# Altium integrated library Lattice ORCA Series 3.IntLib: 93 symbols (part 13 of 14)
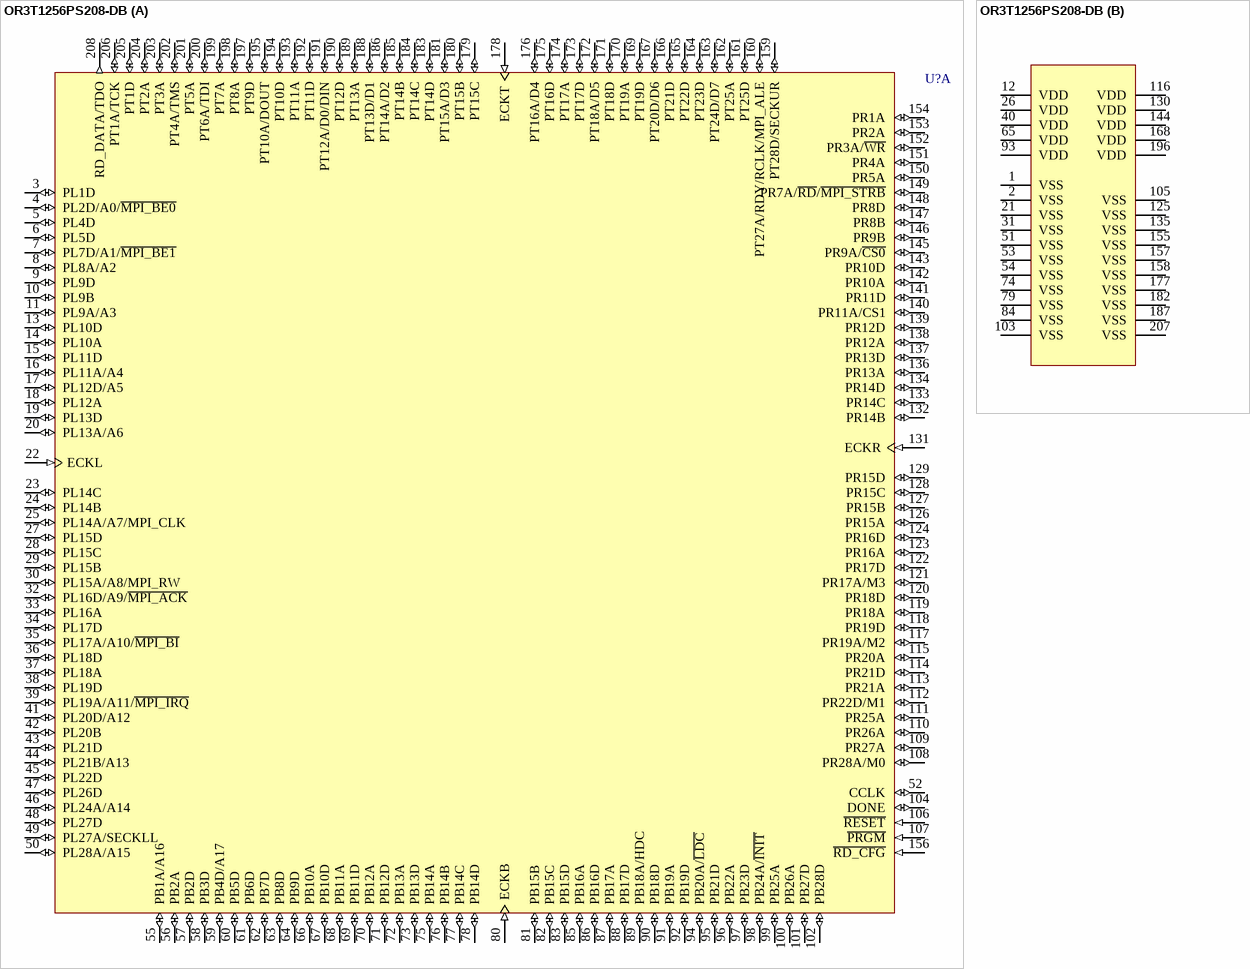
[diagram p148: symbol OR3T1256PS208-DB]

## OR3T1256PS208-DB
designator U?
ORCA Series 3T FPGA: 3.3 V, Commercial Grade, 452 I/Os.; Published: 21-May-2003; LatestRevisionDate: 13-Apr-2006; LatestRevisionNote: IPC-7351 Footprint Added.; DatasheetVersion: Dec-2002; PackageVersion: pkg_32, Aug-2005; PackageReference: PQFP208; Publisher: Altium Limited; PackageDescription: 208-Pin Plastic Quad Flat Pack (PQFP208); Code_JEDEC: MO-143-FAI; ComponentLink1Description: Manufacturer Link; ComponentLink1URL: http://www.latticesemi.com/products/fpga/orca/orca3/index.cfm; ComponentLink2Description: Datasheet; ComponentLink2URL: http://www.latticesemi.com/account/_download.cfm?AMID=3974; ComponentLink3Description: Lattice Login; ComponentLink3URL: http://www.latticesemi.com/account/login.cfm
footprint PQFP208_N (Shrink QFP, 208-Leads, Body 28x28mm, Pitch 0.5mm, IPC Medium Density)
footprint PQFP208_L (Shrink QFP, 208-Leads, Body 28x28mm, Pitch 0.5mm, IPC High Density)
footprint PQFP208_M (Shrink QFP, 208-Leads, Body 28x28mm, Pitch 0.5mm, IPC Low Density)
3D model OR3T125-PQFP208 (208-Pin Plastic Quad Flat Pack (PQFP208))
part A pins: 3 PL1D (io), 4 PL2D/A0/~{MPI_BE0} (io), 5 PL4D (io), 6 PL5D (io), 7 PL7D/A1/~{MPI_BE1} (io), 8 PL8A/A2 (io), 9 PL9D (io), 10 PL9B (io), 11 PL9A/A3 (io), 13 PL10D (io), 14 PL10A (io), 15 PL11D (io), 16 PL11A/A4 (io), 17 PL12D/A5 (io), 18 PL12A (io), 19 PL13D (io), 20 PL13A/A6 (io), 22 ECKL (in), 23 PL14C (io), 24 PL14B (io), 25 PL14A/A7/MPI_CLK (io), 27 PL15D (io), 28 PL15C (io), 29 PL15B (io), 30 PL15A/A8/MPI_RW (io), 32 PL16D/A9/~{MPI_ACK} (io), 33 PL16A (io), 34 PL17D (io), 35 PL17A/A10/~{MPI_BI} (io), 36 PL18D (io), 37 PL18A (io), 38 PL19D (io), 39 PL19A/A11/~{MPI_IRQ} (io), 41 PL20D/A12 (io), 42 PL20B (io), 43 PL21D (io), 44 PL21B/A13 (io), 45 PL22D (io), 46 PL24A/A14 (io), 47 PL26D (io), 48 PL27D (io), 49 PL27A/SECKLL (io), 50 PL28A/A15 (io), 52 CCLK (io), 55 PB1A/A16 (io), 56 PB2A (io), 57 PB2D (io), 58 PB3D (io), 59 PB4D/A17 (io), 60 PB5D (io), 61 PB6D (io), 62 PB7D (io), 63 PB8D (io), 64 PB9D (io), 66 PB10A (io), 67 PB10D (io), 68 PB11A (io), 69 PB11D (io), 70 PB12A (io), 71 PB12D (io), 72 PB13A (io), 73 PB13D (io), 75 PB14A (io), 76 PB14B (io), 77 PB14C (io), 78 PB14D (io), 80 ECKB (in), 81 PB15B (io), 82 PB15C (io), 83 PB15D (io), 85 PB16A (io), 86 PB16D (io), 87 PB17A (io), 88 PB17D (io), 89 PB18A/HDC (io), 90 PB18D (io), 91 PB19A (io), 92 PB19D (io), 94 PB20A/~{LDC} (io), 95 PB21D (io), 96 PB22A (io), 97 PB23D (io), 98 PB24A/~{INIT} (io), 99 PB25A (io), 100 PB26A (io), 101 PB27D (io), 102 PB28D (io), 104 DONE (io), 106 ~{RESET} (in), 107 ~{PRGM} (in), 108 PR28A/M0 (io), 109 PR27A (io), 110 PR26A (io), 111 PR25A (io), 112 PR22D/M1 (io), 113 PR21A (io), 114 PR21D (io), 115 PR20A (io), 117 PR19A/M2 (io), 118 PR19D (io), 119 PR18A (io), 120 PR18D (io), 121 PR17A/M3 (io), 122 PR17D (io), 123 PR16A (io), 124 PR16D (io), 126 PR15A (io), 127 PR15B (io), 128 PR15C (io), 129 PR15D (io), 131 ECKR (in), 132 PR14B (io), 133 PR14C (io), 134 PR14D (io), 136 PR13A (io), 137 PR13D (io), 138 PR12A (io), 139 PR12D (io), 140 PR11A/CS1 (io), 141 PR11D (io), 142 PR10A (io), 143 PR10D (io), 145 PR9A/~{CS0} (io), 146 PR9B (io), 147 PR8B (io), 148 PR8D (io), 149 PR7A/~{RD}/~{MPI_STRB} (io), 150 PR5A (io), 151 PR4A (io), 152 PR3A/~{WR} (io), 153 PR2A (io), 154 PR1A (io), 156 ~{RD_CFG} (in), 159 PT28D/SECKUR (io), 160 PT27A/RDY/RCLK/MPI_ALE (io), 161 PT25D (io), 162 PT25A (io), 163 PT24D/D7 (io), 164 PT23D (io), 165 PT22D (io), 166 PT21D (io), 167 PT20D/D6 (io), 169 PT19D (io), 170 PT19A (io), 171 PT18D (io), 172 PT18A/D5 (io), 173 PT17D (io), 174 PT17A (io), 175 PT16D (io), 176 PT16A/D4 (io), 178 ECKT (in), 179 PT15C (io), 180 PT15B (io), 181 PT15A/D3 (io), 183 PT14D (io), 184 PT14C (io), 185 PT14B (io), 186 PT14A/D2 (io), 188 PT13D/D1 (io), 189 PT13A (io), 190 PT12D (io), 191 PT12A/D0/DIN (io), 192 PT11D (io), 193 PT11A (io), 194 PT10D (io), 195 PT10A/DOUT (io), 197 PT9D (io), 198 PT8A (io), 199 PT7A (io), 200 PT6A/TDI (io), 201 PT5A (io), 202 PT4A/TMS (io), 203 PT3A (io), 204 PT2A (io), 205 PT1D (io), 206 PT1A/TCK (io), 208 RD_DATA/TDO (out)
part B pins: 1 VSS (power), 2 VSS (power), 12 VDD (power), 21 VSS (power), 26 VDD (power), 31 VSS (power), 40 VDD (power), 51 VSS (power), 53 VSS (power), 54 VSS (power), 65 VDD (power), 74 VSS (power), 79 VSS (power), 84 VSS (power), 93 VDD (power), 103 VSS (power), 105 VSS (power), 116 VDD (power), 125 VSS (power), 130 VDD (power), 135 VSS (power), 144 VDD (power), 155 VSS (power), 157 VSS (power), 158 VSS (power), 168 VDD (power), 177 VSS (power), 182 VSS (power), 187 VSS (power), 196 VDD (power), 207 VSS (power)

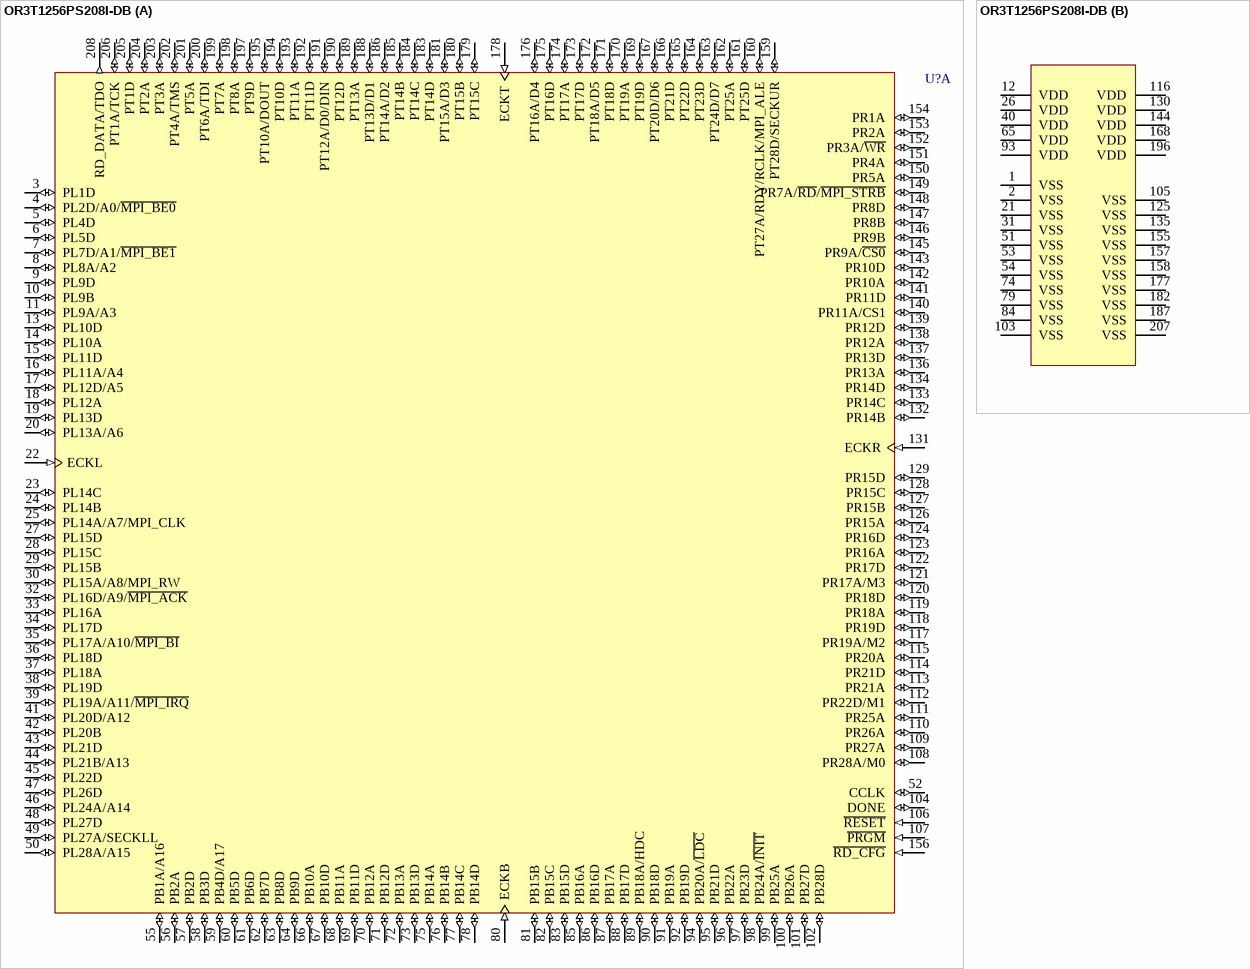
[diagram p126: symbol OR3T1256PS208I-DB]

## OR3T1256PS208I-DB
designator U?
ORCA Series 3T FPGA: 3.3 V, Industrial Grade, 452 I/Os.; Published: 21-May-2003; LatestRevisionDate: 13-Apr-2006; LatestRevisionNote: IPC-7351 Footprint Added.; DatasheetVersion: Dec-2002; PackageVersion: pkg_32, Aug-2005; PackageReference: PQFP208; Publisher: Altium Limited; PackageDescription: 208-Pin Plastic Quad Flat Pack (PQFP208); Code_JEDEC: MO-143-FAI; ComponentLink1Description: Manufacturer Link; ComponentLink1URL: http://www.latticesemi.com/products/fpga/orca/orca3/index.cfm; ComponentLink2Description: Datasheet; ComponentLink2URL: http://www.latticesemi.com/account/_download.cfm?AMID=3974; ComponentLink3Description: Lattice Login; ComponentLink3URL: http://www.latticesemi.com/account/login.cfm
footprint PQFP208_N (Shrink QFP, 208-Leads, Body 28x28mm, Pitch 0.5mm, IPC Medium Density)
footprint PQFP208_L (Shrink QFP, 208-Leads, Body 28x28mm, Pitch 0.5mm, IPC High Density)
footprint PQFP208_M (Shrink QFP, 208-Leads, Body 28x28mm, Pitch 0.5mm, IPC Low Density)
3D model OR3T125-PQFP208 (208-Pin Plastic Quad Flat Pack (PQFP208))
part A pins: 3 PL1D (io), 4 PL2D/A0/~{MPI_BE0} (io), 5 PL4D (io), 6 PL5D (io), 7 PL7D/A1/~{MPI_BE1} (io), 8 PL8A/A2 (io), 9 PL9D (io), 10 PL9B (io), 11 PL9A/A3 (io), 13 PL10D (io), 14 PL10A (io), 15 PL11D (io), 16 PL11A/A4 (io), 17 PL12D/A5 (io), 18 PL12A (io), 19 PL13D (io), 20 PL13A/A6 (io), 22 ECKL (in), 23 PL14C (io), 24 PL14B (io), 25 PL14A/A7/MPI_CLK (io), 27 PL15D (io), 28 PL15C (io), 29 PL15B (io), 30 PL15A/A8/MPI_RW (io), 32 PL16D/A9/~{MPI_ACK} (io), 33 PL16A (io), 34 PL17D (io), 35 PL17A/A10/~{MPI_BI} (io), 36 PL18D (io), 37 PL18A (io), 38 PL19D (io), 39 PL19A/A11/~{MPI_IRQ} (io), 41 PL20D/A12 (io), 42 PL20B (io), 43 PL21D (io), 44 PL21B/A13 (io), 45 PL22D (io), 46 PL24A/A14 (io), 47 PL26D (io), 48 PL27D (io), 49 PL27A/SECKLL (io), 50 PL28A/A15 (io), 52 CCLK (io), 55 PB1A/A16 (io), 56 PB2A (io), 57 PB2D (io), 58 PB3D (io), 59 PB4D/A17 (io), 60 PB5D (io), 61 PB6D (io), 62 PB7D (io), 63 PB8D (io), 64 PB9D (io), 66 PB10A (io), 67 PB10D (io), 68 PB11A (io), 69 PB11D (io), 70 PB12A (io), 71 PB12D (io), 72 PB13A (io), 73 PB13D (io), 75 PB14A (io), 76 PB14B (io), 77 PB14C (io), 78 PB14D (io), 80 ECKB (in), 81 PB15B (io), 82 PB15C (io), 83 PB15D (io), 85 PB16A (io), 86 PB16D (io), 87 PB17A (io), 88 PB17D (io), 89 PB18A/HDC (io), 90 PB18D (io), 91 PB19A (io), 92 PB19D (io), 94 PB20A/~{LDC} (io), 95 PB21D (io), 96 PB22A (io), 97 PB23D (io), 98 PB24A/~{INIT} (io), 99 PB25A (io), 100 PB26A (io), 101 PB27D (io), 102 PB28D (io), 104 DONE (io), 106 ~{RESET} (in), 107 ~{PRGM} (in), 108 PR28A/M0 (io), 109 PR27A (io), 110 PR26A (io), 111 PR25A (io), 112 PR22D/M1 (io), 113 PR21A (io), 114 PR21D (io), 115 PR20A (io), 117 PR19A/M2 (io), 118 PR19D (io), 119 PR18A (io), 120 PR18D (io), 121 PR17A/M3 (io), 122 PR17D (io), 123 PR16A (io), 124 PR16D (io), 126 PR15A (io), 127 PR15B (io), 128 PR15C (io), 129 PR15D (io), 131 ECKR (in), 132 PR14B (io), 133 PR14C (io), 134 PR14D (io), 136 PR13A (io), 137 PR13D (io), 138 PR12A (io), 139 PR12D (io), 140 PR11A/CS1 (io), 141 PR11D (io), 142 PR10A (io), 143 PR10D (io), 145 PR9A/~{CS0} (io), 146 PR9B (io), 147 PR8B (io), 148 PR8D (io), 149 PR7A/~{RD}/~{MPI_STRB} (io), 150 PR5A (io), 151 PR4A (io), 152 PR3A/~{WR} (io), 153 PR2A (io), 154 PR1A (io), 156 ~{RD_CFG} (in), 159 PT28D/SECKUR (io), 160 PT27A/RDY/RCLK/MPI_ALE (io), 161 PT25D (io), 162 PT25A (io), 163 PT24D/D7 (io), 164 PT23D (io), 165 PT22D (io), 166 PT21D (io), 167 PT20D/D6 (io), 169 PT19D (io), 170 PT19A (io), 171 PT18D (io), 172 PT18A/D5 (io), 173 PT17D (io), 174 PT17A (io), 175 PT16D (io), 176 PT16A/D4 (io), 178 ECKT (in), 179 PT15C (io), 180 PT15B (io), 181 PT15A/D3 (io), 183 PT14D (io), 184 PT14C (io), 185 PT14B (io), 186 PT14A/D2 (io), 188 PT13D/D1 (io), 189 PT13A (io), 190 PT12D (io), 191 PT12A/D0/DIN (io), 192 PT11D (io), 193 PT11A (io), 194 PT10D (io), 195 PT10A/DOUT (io), 197 PT9D (io), 198 PT8A (io), 199 PT7A (io), 200 PT6A/TDI (io), 201 PT5A (io), 202 PT4A/TMS (io), 203 PT3A (io), 204 PT2A (io), 205 PT1D (io), 206 PT1A/TCK (io), 208 RD_DATA/TDO (out)
part B pins: 1 VSS (power), 2 VSS (power), 12 VDD (power), 21 VSS (power), 26 VDD (power), 31 VSS (power), 40 VDD (power), 51 VSS (power), 53 VSS (power), 54 VSS (power), 65 VDD (power), 74 VSS (power), 79 VSS (power), 84 VSS (power), 93 VDD (power), 103 VSS (power), 105 VSS (power), 116 VDD (power), 125 VSS (power), 130 VDD (power), 135 VSS (power), 144 VDD (power), 155 VSS (power), 157 VSS (power), 158 VSS (power), 168 VDD (power), 177 VSS (power), 182 VSS (power), 187 VSS (power), 196 VDD (power), 207 VSS (power)

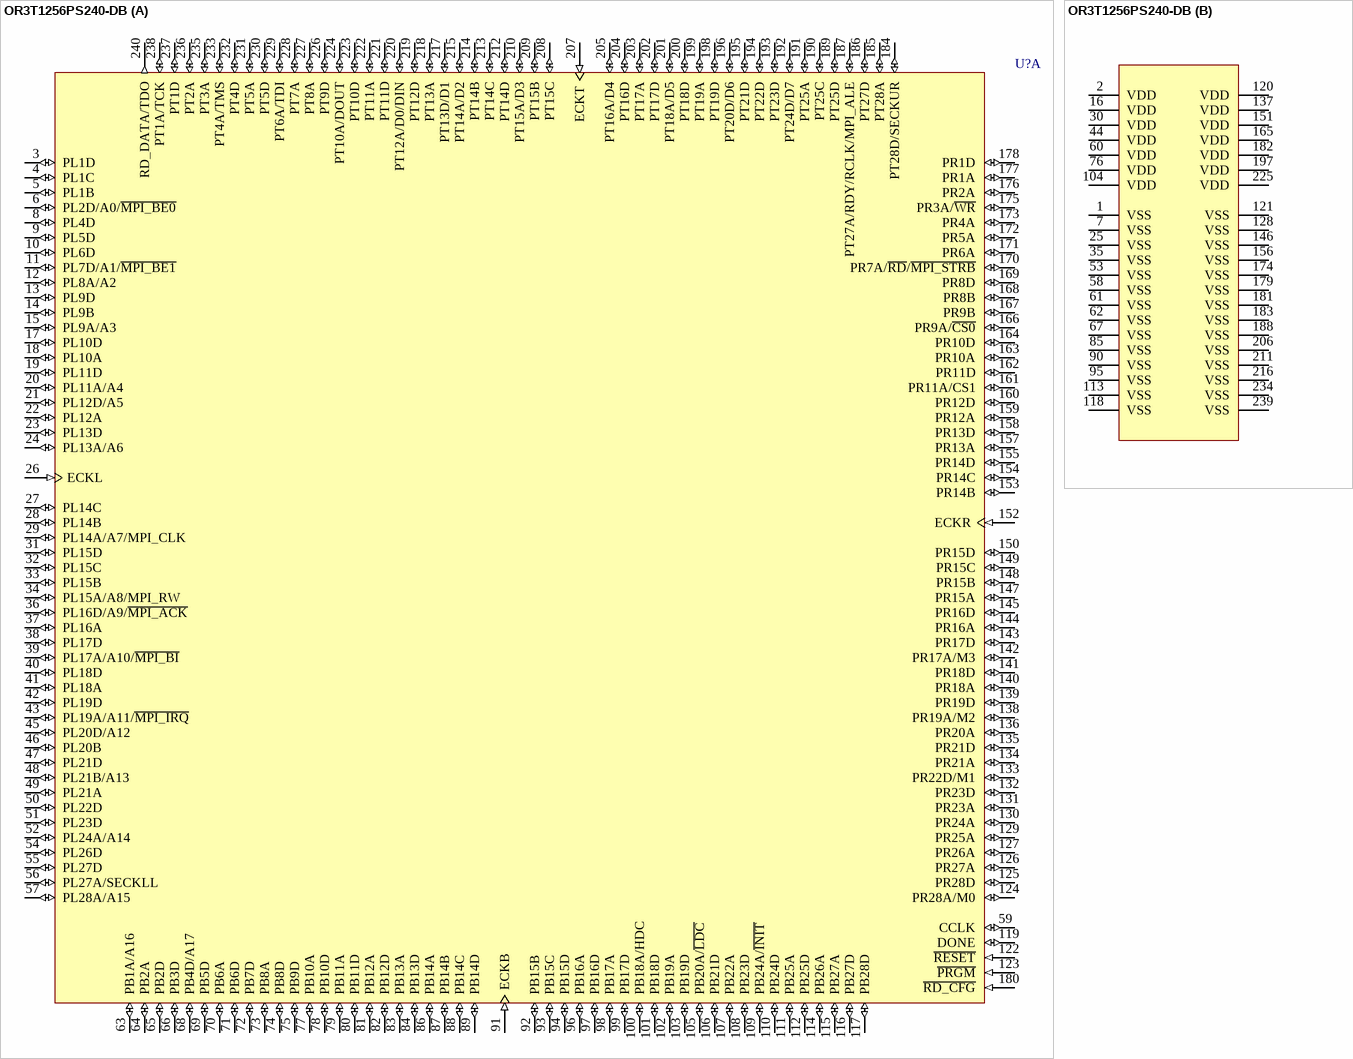
[diagram p127: symbol OR3T1256PS240-DB]

## OR3T1256PS240-DB
designator U?
ORCA Series 3T FPGA: 3.3 V, Commercial Grade, 452 I/Os.; Published: 21-May-2003; LatestRevisionDate: 13-Apr-2006; LatestRevisionNote: IPC-7351 Footprint Added.; DatasheetVersion: Dec-2002; PackageVersion: pkg_32, Aug-2005; PackageReference: PQFP240; Publisher: Altium Limited; PackageDescription: 240-Pin Shrink Quad Flat Pack 0.5 mm Pitch; ComponentLink1Description: Manufacturer Link; ComponentLink1URL: http://www.latticesemi.com/products/fpga/orca/orca3/index.cfm; ComponentLink2Description: Datasheet; ComponentLink2URL: http://www.latticesemi.com/account/_download.cfm?AMID=3974; ComponentLink3Description: Lattice Login; ComponentLink3URL: http://www.latticesemi.com/account/login.cfm
footprint PQFP240_N (Shrink QFP, 240-Leads, Body 32x32mm, Pitch 0.5mm, IPC Medium Density)
footprint PQFP240_L (Shrink QFP, 240-Leads, Body 32x32mm, Pitch 0.5mm, IPC High Density)
footprint PQFP240_M (Shrink QFP, 240-Leads, Body 32x32mm, Pitch 0.5mm, IPC Low Density)
3D model OR3T125-PQFP240 (240-Pin Shrink Quad Flat Pack 0.5 mm Pitch)
part A pins: 3 PL1D (io), 4 PL1C (io), 5 PL1B (io), 6 PL2D/A0/~{MPI_BE0} (io), 8 PL4D (io), 9 PL5D (io), 10 PL6D (io), 11 PL7D/A1/~{MPI_BE1} (io), 12 PL8A/A2 (io), 13 PL9D (io), 14 PL9B (io), 15 PL9A/A3 (io), 17 PL10D (io), 18 PL10A (io), 19 PL11D (io), 20 PL11A/A4 (io), 21 PL12D/A5 (io), 22 PL12A (io), 23 PL13D (io), 24 PL13A/A6 (io), 26 ECKL (in), 27 PL14C (io), 28 PL14B (io), 29 PL14A/A7/MPI_CLK (io), 31 PL15D (io), 32 PL15C (io), 33 PL15B (io), 34 PL15A/A8/MPI_RW (io), 36 PL16D/A9/~{MPI_ACK} (io), 37 PL16A (io), 38 PL17D (io), 39 PL17A/A10/~{MPI_BI} (io), 40 PL18D (io), 41 PL18A (io), 42 PL19D (io), 43 PL19A/A11/~{MPI_IRQ} (io), 45 PL20D/A12 (io), 46 PL20B (io), 47 PL21D (io), 48 PL21B/A13 (io), 49 PL21A (io), 50 PL22D (io), 51 PL23D (io), 52 PL24A/A14 (io), 54 PL26D (io), 55 PL27D (io), 56 PL27A/SECKLL (io), 57 PL28A/A15 (io), 59 CCLK (io), 63 PB1A/A16 (io), 64 PB2A (io), 65 PB2D (io), 66 PB3D (io), 68 PB4D/A17 (io), 69 PB5D (io), 70 PB6A (io), 71 PB6D (io), 72 PB7D (io), 73 PB8A (io), 74 PB8D (io), 75 PB9D (io), 77 PB10A (io), 78 PB10D (io), 79 PB11A (io), 80 PB11D (io), 81 PB12A (io), 82 PB12D (io), 83 PB13A (io), 84 PB13D (io), 86 PB14A (io), 87 PB14B (io), 88 PB14C (io), 89 PB14D (io), 91 ECKB (in), 92 PB15B (io), 93 PB15C (io), 94 PB15D (io), 96 PB16A (io), 97 PB16D (io), 98 PB17A (io), 99 PB17D (io), 100 PB18A/HDC (io), 101 PB18D (io), 102 PB19A (io), 103 PB19D (io), 105 PB20A/~{LDC} (io), 106 PB21D (io), 107 PB22A (io), 108 PB23D (io), 109 PB24A/~{INIT} (io), 110 PB24D (io), 111 PB25A (io), 112 PB25D (io), 114 PB26A (io), 115 PB27A (io), 116 PB27D (io), 117 PB28D (io), 119 DONE (io), 122 ~{RESET} (in), 123 ~{PRGM} (in), 124 PR28A/M0 (io), 125 PR28D (io), 126 PR27A (io), 127 PR26A (io), 129 PR25A (io), 130 PR24A (io), 131 PR23A (io), 132 PR23D (io), 133 PR22D/M1 (io), 134 PR21A (io), 135 PR21D (io), 136 PR20A (io), 138 PR19A/M2 (io), 139 PR19D (io), 140 PR18A (io), 141 PR18D (io), 142 PR17A/M3 (io), 143 PR17D (io), 144 PR16A (io), 145 PR16D (io), 147 PR15A (io), 148 PR15B (io), 149 PR15C (io), 150 PR15D (io), 152 ECKR (in), 153 PR14B (io), 154 PR14C (io), 155 PR14D (io), 157 PR13A (io), 158 PR13D (io), 159 PR12A (io), 160 PR12D (io), 161 PR11A/CS1 (io), 162 PR11D (io), 163 PR10A (io), 164 PR10D (io), 166 PR9A/~{CS0} (io), 167 PR9B (io), 168 PR8B (io), 169 PR8D (io), 170 PR7A/~{RD}/~{MPI_STRB} (io), 171 PR6A (io), 172 PR5A (io), 173 PR4A (io), 175 PR3A/~{WR} (io), 176 PR2A (io), 177 PR1A (io), 178 PR1D (io), 180 ~{RD_CFG} (in), 184 PT28D/SECKUR (io), 185 PT28A (io), 186 PT27D (io), 187 PT27A/RDY/RCLK/MPI_ALE (io), 189 PT25D (io), 190 PT25C (io), 191 PT25A (io), 192 PT24D/D7 (io), 193 PT23D (io), 194 PT22D (io), 195 PT21D (io), 196 PT20D/D6 (io), 198 PT19D (io), 199 PT19A (io), 200 PT18D (io), 201 PT18A/D5 (io), 202 PT17D (io), 203 PT17A (io), 204 PT16D (io), 205 PT16A/D4 (io), 207 ECKT (in), 208 PT15C (io), 209 PT15B (io), 210 PT15A/D3 (io), 212 PT14D (io), 213 PT14C (io), 214 PT14B (io), 215 PT14A/D2 (io), 217 PT13D/D1 (io), 218 PT13A (io), 219 PT12D (io), 220 PT12A/D0/DIN (io), 221 PT11D (io), 222 PT11A (io), 223 PT10D (io), 224 PT10A/DOUT (io), 226 PT9D (io), 227 PT8A (io), 228 PT7A (io), 229 PT6A/TDI (io), 230 PT5D (io), 231 PT5A (io), 232 PT4D (io), 233 PT4A/TMS (io), 235 PT3A (io), 236 PT2A (io), 237 PT1D (io), 238 PT1A/TCK (io), 240 RD_DATA/TDO (out)
part B pins: 1 VSS (power), 2 VDD (power), 7 VSS (power), 16 VDD (power), 25 VSS (power), 30 VDD (power), 35 VSS (power), 44 VDD (power), 53 VSS (power), 58 VSS (power), 60 VDD (power), 61 VSS (power), 62 VSS (power), 67 VSS (power), 76 VDD (power), 85 VSS (power), 90 VSS (power), 95 VSS (power), 104 VDD (power), 113 VSS (power), 118 VSS (power), 120 VDD (power), 121 VSS (power), 128 VSS (power), 137 VDD (power), 146 VSS (power), 151 VDD (power), 156 VSS (power), 165 VDD (power), 174 VSS (power), 179 VSS (power), 181 VSS (power), 182 VDD (power), 183 VSS (power), 188 VSS (power), 197 VDD (power), 206 VSS (power), 211 VSS (power), 216 VSS (power), 225 VDD (power), 234 VSS (power), 239 VSS (power)

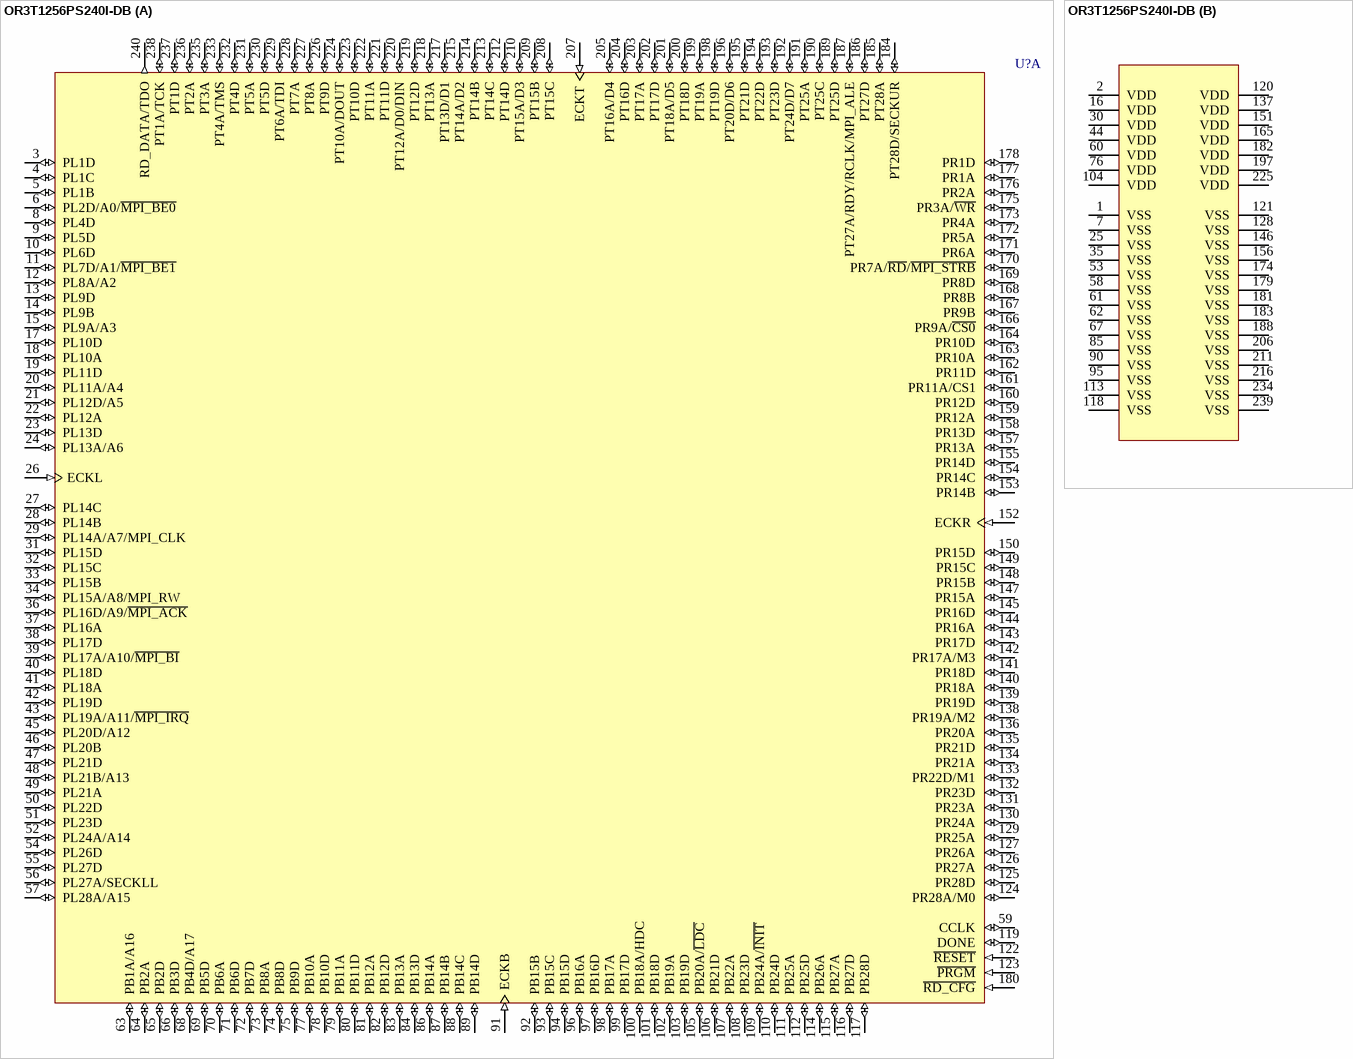
[diagram p128: symbol OR3T1256PS240I-DB]

## OR3T1256PS240I-DB
designator U?
ORCA Series 3T FPGA: 3.3 V, Industrial Grade, 452 I/Os.; Published: 21-May-2003; LatestRevisionDate: 13-Apr-2006; LatestRevisionNote: IPC-7351 Footprint Added.; DatasheetVersion: Dec-2002; PackageVersion: pkg_32, Aug-2005; PackageReference: PQFP240; Publisher: Altium Limited; PackageDescription: 240-Pin Shrink Quad Flat Pack 0.5 mm Pitch; ComponentLink1Description: Manufacturer Link; ComponentLink1URL: http://www.latticesemi.com/products/fpga/orca/orca3/index.cfm; ComponentLink2Description: Datasheet; ComponentLink2URL: http://www.latticesemi.com/account/_download.cfm?AMID=3974; ComponentLink3Description: Lattice Login; ComponentLink3URL: http://www.latticesemi.com/account/login.cfm
footprint PQFP240_N (Shrink QFP, 240-Leads, Body 32x32mm, Pitch 0.5mm, IPC Medium Density)
footprint PQFP240_L (Shrink QFP, 240-Leads, Body 32x32mm, Pitch 0.5mm, IPC High Density)
footprint PQFP240_M (Shrink QFP, 240-Leads, Body 32x32mm, Pitch 0.5mm, IPC Low Density)
3D model OR3T125-PQFP240 (240-Pin Shrink Quad Flat Pack 0.5 mm Pitch)
part A pins: 3 PL1D (io), 4 PL1C (io), 5 PL1B (io), 6 PL2D/A0/~{MPI_BE0} (io), 8 PL4D (io), 9 PL5D (io), 10 PL6D (io), 11 PL7D/A1/~{MPI_BE1} (io), 12 PL8A/A2 (io), 13 PL9D (io), 14 PL9B (io), 15 PL9A/A3 (io), 17 PL10D (io), 18 PL10A (io), 19 PL11D (io), 20 PL11A/A4 (io), 21 PL12D/A5 (io), 22 PL12A (io), 23 PL13D (io), 24 PL13A/A6 (io), 26 ECKL (in), 27 PL14C (io), 28 PL14B (io), 29 PL14A/A7/MPI_CLK (io), 31 PL15D (io), 32 PL15C (io), 33 PL15B (io), 34 PL15A/A8/MPI_RW (io), 36 PL16D/A9/~{MPI_ACK} (io), 37 PL16A (io), 38 PL17D (io), 39 PL17A/A10/~{MPI_BI} (io), 40 PL18D (io), 41 PL18A (io), 42 PL19D (io), 43 PL19A/A11/~{MPI_IRQ} (io), 45 PL20D/A12 (io), 46 PL20B (io), 47 PL21D (io), 48 PL21B/A13 (io), 49 PL21A (io), 50 PL22D (io), 51 PL23D (io), 52 PL24A/A14 (io), 54 PL26D (io), 55 PL27D (io), 56 PL27A/SECKLL (io), 57 PL28A/A15 (io), 59 CCLK (io), 63 PB1A/A16 (io), 64 PB2A (io), 65 PB2D (io), 66 PB3D (io), 68 PB4D/A17 (io), 69 PB5D (io), 70 PB6A (io), 71 PB6D (io), 72 PB7D (io), 73 PB8A (io), 74 PB8D (io), 75 PB9D (io), 77 PB10A (io), 78 PB10D (io), 79 PB11A (io), 80 PB11D (io), 81 PB12A (io), 82 PB12D (io), 83 PB13A (io), 84 PB13D (io), 86 PB14A (io), 87 PB14B (io), 88 PB14C (io), 89 PB14D (io), 91 ECKB (in), 92 PB15B (io), 93 PB15C (io), 94 PB15D (io), 96 PB16A (io), 97 PB16D (io), 98 PB17A (io), 99 PB17D (io), 100 PB18A/HDC (io), 101 PB18D (io), 102 PB19A (io), 103 PB19D (io), 105 PB20A/~{LDC} (io), 106 PB21D (io), 107 PB22A (io), 108 PB23D (io), 109 PB24A/~{INIT} (io), 110 PB24D (io), 111 PB25A (io), 112 PB25D (io), 114 PB26A (io), 115 PB27A (io), 116 PB27D (io), 117 PB28D (io), 119 DONE (io), 122 ~{RESET} (in), 123 ~{PRGM} (in), 124 PR28A/M0 (io), 125 PR28D (io), 126 PR27A (io), 127 PR26A (io), 129 PR25A (io), 130 PR24A (io), 131 PR23A (io), 132 PR23D (io), 133 PR22D/M1 (io), 134 PR21A (io), 135 PR21D (io), 136 PR20A (io), 138 PR19A/M2 (io), 139 PR19D (io), 140 PR18A (io), 141 PR18D (io), 142 PR17A/M3 (io), 143 PR17D (io), 144 PR16A (io), 145 PR16D (io), 147 PR15A (io), 148 PR15B (io), 149 PR15C (io), 150 PR15D (io), 152 ECKR (in), 153 PR14B (io), 154 PR14C (io), 155 PR14D (io), 157 PR13A (io), 158 PR13D (io), 159 PR12A (io), 160 PR12D (io), 161 PR11A/CS1 (io), 162 PR11D (io), 163 PR10A (io), 164 PR10D (io), 166 PR9A/~{CS0} (io), 167 PR9B (io), 168 PR8B (io), 169 PR8D (io), 170 PR7A/~{RD}/~{MPI_STRB} (io), 171 PR6A (io), 172 PR5A (io), 173 PR4A (io), 175 PR3A/~{WR} (io), 176 PR2A (io), 177 PR1A (io), 178 PR1D (io), 180 ~{RD_CFG} (in), 184 PT28D/SECKUR (io), 185 PT28A (io), 186 PT27D (io), 187 PT27A/RDY/RCLK/MPI_ALE (io), 189 PT25D (io), 190 PT25C (io), 191 PT25A (io), 192 PT24D/D7 (io), 193 PT23D (io), 194 PT22D (io), 195 PT21D (io), 196 PT20D/D6 (io), 198 PT19D (io), 199 PT19A (io), 200 PT18D (io), 201 PT18A/D5 (io), 202 PT17D (io), 203 PT17A (io), 204 PT16D (io), 205 PT16A/D4 (io), 207 ECKT (in), 208 PT15C (io), 209 PT15B (io), 210 PT15A/D3 (io), 212 PT14D (io), 213 PT14C (io), 214 PT14B (io), 215 PT14A/D2 (io), 217 PT13D/D1 (io), 218 PT13A (io), 219 PT12D (io), 220 PT12A/D0/DIN (io), 221 PT11D (io), 222 PT11A (io), 223 PT10D (io), 224 PT10A/DOUT (io), 226 PT9D (io), 227 PT8A (io), 228 PT7A (io), 229 PT6A/TDI (io), 230 PT5D (io), 231 PT5A (io), 232 PT4D (io), 233 PT4A/TMS (io), 235 PT3A (io), 236 PT2A (io), 237 PT1D (io), 238 PT1A/TCK (io), 240 RD_DATA/TDO (out)
part B pins: 1 VSS (power), 2 VDD (power), 7 VSS (power), 16 VDD (power), 25 VSS (power), 30 VDD (power), 35 VSS (power), 44 VDD (power), 53 VSS (power), 58 VSS (power), 60 VDD (power), 61 VSS (power), 62 VSS (power), 67 VSS (power), 76 VDD (power), 85 VSS (power), 90 VSS (power), 95 VSS (power), 104 VDD (power), 113 VSS (power), 118 VSS (power), 120 VDD (power), 121 VSS (power), 128 VSS (power), 137 VDD (power), 146 VSS (power), 151 VDD (power), 156 VSS (power), 165 VDD (power), 174 VSS (power), 179 VSS (power), 181 VSS (power), 182 VDD (power), 183 VSS (power), 188 VSS (power), 197 VDD (power), 206 VSS (power), 211 VSS (power), 216 VSS (power), 225 VDD (power), 234 VSS (power), 239 VSS (power)

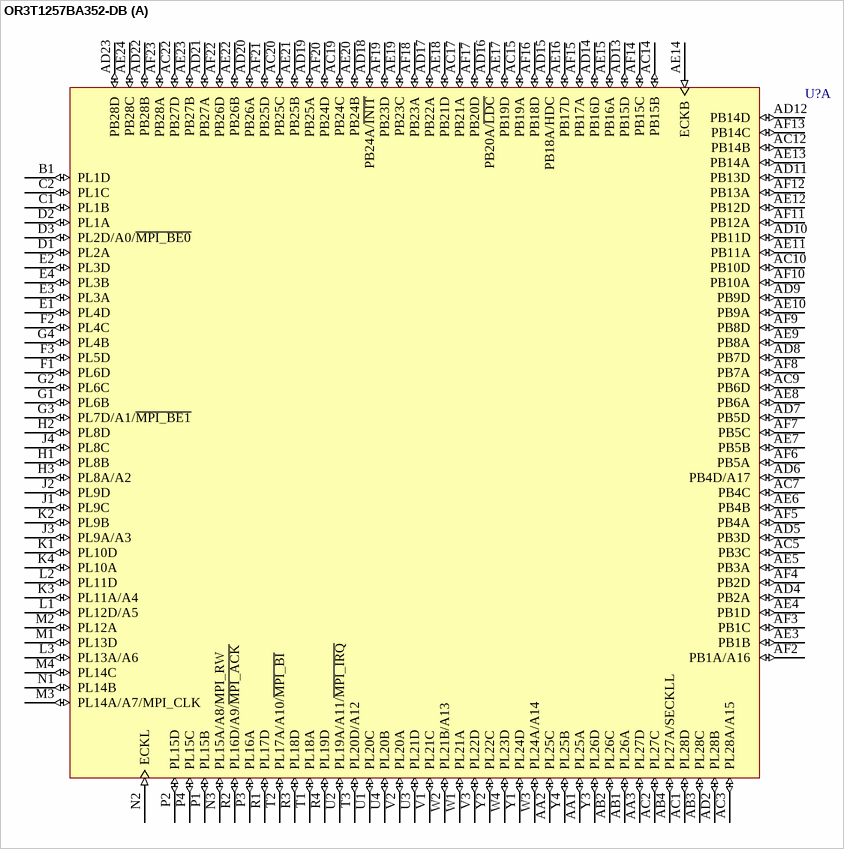
[diagram p129: symbol OR3T1257BA352-DB]

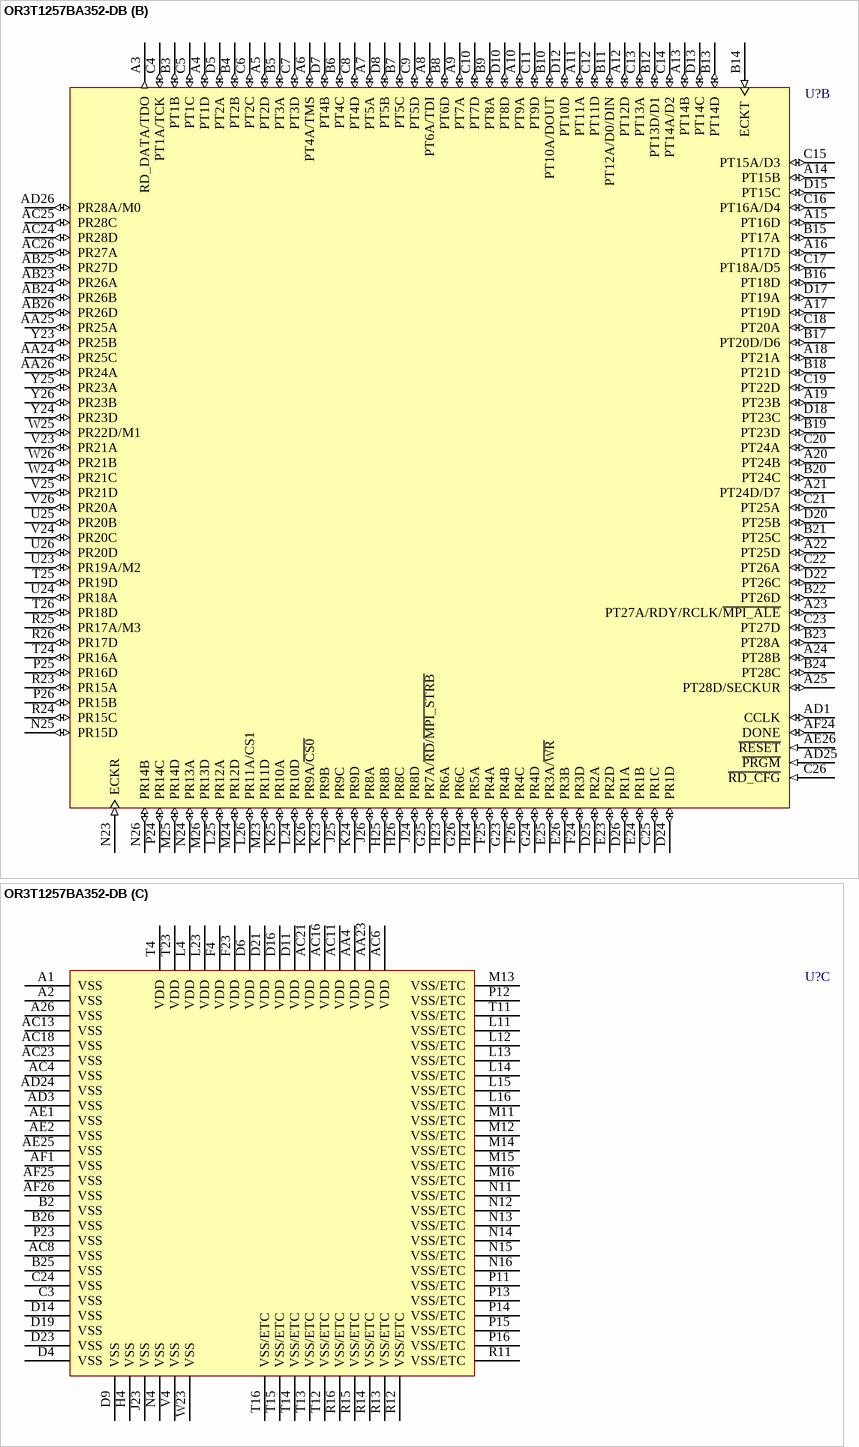
[diagram p130: symbol OR3T1257BA352-DB]

## OR3T1257BA352-DB
designator U?
ORCA Series 3T FPGA: 3.3 V, Commercial Grade, 452 I/Os.; PinConnectionRecommendation: Ground array of 'VSS-ETC' pins for enhanced thermal capability or leave unconnected.; Published: 21-May-2003; LatestRevisionDate: 13-Apr-2006; LatestRevisionNote: IPC-7351 Footprint Added.; DatasheetVersion: Dec-2002; PackageVersion: pkg_32, Aug-2005; PackageReference: BGA388; Publisher: Altium Limited; PackageDescription: 388-Ball Ball Grid Array (BGA388); ComponentLink1Description: Manufacturer Link; ComponentLink1URL: http://www.latticesemi.com/products/fpga/orca/orca3/index.cfm; ComponentLink2Description: Datasheet; ComponentLink2URL: http://www.latticesemi.com/account/_download.cfm?AMID=3974; ComponentLink3Description: Lattice Login; ComponentLink3URL: http://www.latticesemi.com/account/login.cfm
footprint BGA388 (BGA, 388-Leads, Body 35x35mm, Pitch 1.27mm)
3D model OR3T125-BGA388 (388-Ball Ball Grid Array (BGA388))
part A pins: AA1 PL25A (io), AA2 PL25C (io), AA3 PL27D (io), AB1 PL26A (io), AB2 PL26C (io), AB3 PL28C (io), AB4 PL27A/SECKLL (io), AC1 PL28D (io), AC2 PL27C (io), AC3 PL28A/A15 (io), AC5 PB3C (io), AC7 PB4C (io), AC9 PB6D (io), AC10 PB10D (io), AC12 PB14B (io), AC14 PB15B (io), AC15 PB19A (io), AC17 PB21A (io), AC19 PB24C (io), AC20 PB25C (io), AC22 PB27D (io), AD2 PL28B (io), AD4 PB2A (io), AD5 PB3D (io), AD6 PB4D/A17 (io), AD7 PB5D (io), AD8 PB7D (io), AD9 PB9D (io), AD10 PB11D (io), AD11 PB13D (io), AD12 PB14D (io), AD13 PB15D (io), AD14 PB16D (io), AD15 PB18A/HDC (io), AD16 PB20A/~{LDC} (io), AD17 PB22A (io), AD18 PB24A/~{INIT} (io), AD19 PB25A (io), AD20 PB26A (io), AD21 PB27A (io), AD22 PB28B (io), AD23 PB28D (io), AE3 PB1B (io), AE4 PB1D (io), AE5 PB3A (io), AE6 PB4B (io), AE7 PB5B (io), AE8 PB6A (io), AE9 PB8A (io), AE10 PB9A (io), AE11 PB11A (io), AE12 PB12D (io), AE13 PB14A (io), AE14 ECKB (in), AE15 PB16A (io), AE16 PB17D (io), AE17 PB19D (io), AE18 PB21D (io), AE19 PB23C (io), AE20 PB24B (io), AE21 PB25B (io), AE22 PB26B (io), AE23 PB27B (io), AE24 PB28C (io), AF2 PB1A/A16 (io), AF3 PB1C (io), AF4 PB2D (io), AF5 PB4A (io), AF6 PB5A (io), AF7 PB5C (io), AF8 PB7A (io), AF9 PB8D (io), AF10 PB10A (io), AF11 PB12A (io), AF12 PB13A (io), AF13 PB14C (io), AF14 PB15C (io), AF15 PB17A (io), AF16 PB18D (io), AF17 PB20D (io), AF18 PB23A (io), AF19 PB23D (io), AF20 PB24D (io), AF21 PB25D (io), AF22 PB26D (io), AF23 PB28A (io), B1 PL1D (io), C1 PL1B (io), C2 PL1C (io), D1 PL2A (io), D2 PL1A (io), D3 PL2D/A0/~{MPI_BE0} (io), E1 PL4D (io), E2 PL3D (io), E3 PL3A (io), E4 PL3B (io), F1 PL6D (io), F2 PL4C (io), F3 PL5D (io), G1 PL6B (io), G2 PL6C (io), G3 PL7D/A1/~{MPI_BE1} (io), G4 PL4B (io), H1 PL8B (io), H2 PL8D (io), H3 PL8A/A2 (io), J1 PL9C (io), J2 PL9D (io), J3 PL9A/A3 (io), J4 PL8C (io), K1 PL10D (io), K2 PL9B (io), K3 PL11A/A4 (io), K4 PL10A (io), L1 PL12D/A5 (io), L2 PL11D (io), L3 PL13A/A6 (io), M1 PL13D (io), M2 PL12A (io), M3 PL14A/A7/MPI_CLK (io), M4 PL14C (io), N1 PL14B (io), N2 ECKL (in), N3 PL15A/A8/MPI_RW (io), P1 PL15B (io), P2 PL15D (io), P3 PL16A (io), P4 PL15C (io), R1 PL17D (io), R2 PL16D/A9/~{MPI_ACK} (io), R3 PL18D (io), R4 PL19D (io), T1 PL18A (io), T2 PL17A/A10/~{MPI_BI} (io), T3 PL20D/A12 (io), U1 PL20C (io), U2 PL19A/A11/~{MPI_IRQ} (io), U3 PL21D (io), U4 PL20B (io), V1 PL21C (io), V2 PL20A (io), V3 PL22D (io), W1 PL21A (io), W2 PL21B/A13 (io), W3 PL24A/A14 (io), W4 PL23D (io), Y1 PL24D (io), Y2 PL22C (io), Y3 PL26D (io), Y4 PL25B (io)
part B pins: A3 RD_DATA/TDO (out), A4 PT1D (io), A5 PT2D (io), A6 PT4A/TMS (io), A7 PT5A (io), A8 PT6A/TDI (io), A9 PT7A (io), A10 PT9A (io), A11 PT11A (io), A12 PT12D (io), A13 PT14B (io), A14 PT15B (io), A15 PT16D (io), A16 PT17D (io), A17 PT19D (io), A18 PT21A (io), A19 PT23B (io), A20 PT24B (io), A21 PT24D/D7 (io), A22 PT25D (io), A23 PT27A/RDY/RCLK/~{MPI_ALE} (io), A24 PT28B (io), A25 PT28D/SECKUR (io), AA24 PR25C (io), AA25 PR25A (io), AA26 PR24A (io), AB23 PR26A (io), AB24 PR26B (io), AB25 PR27D (io), AB26 PR26D (io), AC24 PR28D (io), AC25 PR28C (io), AC26 PR27A (io), AD1 CCLK (io), AD25 ~{PRGM} (in), AD26 PR28A/M0 (io), AE26 ~{RESET} (in), AF24 DONE (io), B3 PT1B (io), B4 PT2B (io), B5 PT3A (io), B6 PT4C (io), B7 PT5C (io), B8 PT6D (io), B9 PT8A (io), B10 PT10A/DOUT (io), B11 PT12A/D0/DIN (io), B12 PT13D/D1 (io), B13 PT14D (io), B14 ECKT (in), B15 PT17A (io), B16 PT18D (io), B17 PT20D/D6 (io), B18 PT21D (io), B19 PT23D (io), B20 PT24C (io), B21 PT25C (io), B22 PT26D (io), B23 PT28A (io), B24 PT28C (io), C4 PT1A/TCK (io), C5 PT1C (io), C6 PT2C (io), C7 PT3D (io), C8 PT4D (io), C9 PT5D (io), C10 PT7D (io), C11 PT9D (io), C12 PT11D (io), C13 PT13A (io), C14 PT14A/D2 (io), C15 PT15A/D3 (io), C16 PT16A/D4 (io), C17 PT18A/D5 (io), C18 PT20A (io), C19 PT22D (io), C20 PT24A (io), C21 PT25A (io), C22 PT26A (io), C23 PT27D (io), C25 PR1C (io), C26 ~{RD_CFG} (in), D5 PT2A (io), D7 PT4B (io), D8 PT5B (io), D10 PT8D (io), D12 PT10D (io), D13 PT14C (io), D15 PT15C (io), D17 PT19A (io), D18 PT23C (io), D20 PT25B (io), D22 PT26C (io), D24 PR1D (io), D25 PR2A (io), D26 PR1A (io), E23 PR2D (io), E24 PR1B (io), E25 PR3A/~{WR} (io), E26 PR3B (io), F24 PR3D (io), F25 PR4A (io), F26 PR4C (io), G23 PR4B (io), G24 PR4D (io), G25 PR7A/~{RD}/~{MPI_STRB} (io), G26 PR6C (io), H23 PR6A (io), H24 PR5A (io), H25 PR8B (io), H26 PR8C (io), J24 PR8D (io), J25 PR9C (io), J26 PR8A (io), K23 PR9B (io), K24 PR9D (io), K25 PR10A (io), K26 PR9A/~{CS0} (io), L24 PR10D (io), L25 PR12A (io), L26 PR11A/CS1 (io), M23 PR11D (io), M24 PR12D (io), M25 PR14D (io), M26 PR13D (io), N23 ECKR (in), N24 PR13A (io), N25 PR15D (io), N26 PR14B (io), P24 PR14C (io), P25 PR16D (io), P26 PR15B (io), R23 PR15A (io), R24 PR15C (io), R25 PR17A/M3 (io), R26 PR17D (io), T24 PR16A (io), T25 PR19D (io), T26 PR18D (io), U23 PR19A/M2 (io), U24 PR18A (io), U25 PR20B (io), U26 PR20D (io), V23 PR21A (io), V24 PR20C (io), V25 PR21D (io), V26 PR20A (io), W24 PR21C (io), W25 PR22D/M1 (io), W26 PR21B (io), Y23 PR25B (io), Y24 PR23D (io), Y25 PR23A (io), Y26 PR23B (io)
part C pins: A1 VSS (power), A2 VSS (power), A26 VSS (power), AA4 VDD (power), AA23 VDD (power), AC4 VSS (power), AC6 VDD (power), AC8 VSS (power), AC11 VDD (power), AC13 VSS (power), AC16 VDD (power), AC18 VSS (power), AC21 VDD (power), AC23 VSS (power), AD3 VSS (power), AD24 VSS (power), AE1 VSS (power), AE2 VSS (power), AE25 VSS (power), AF1 VSS (power), AF25 VSS (power), AF26 VSS (power), B2 VSS (power), B25 VSS (power), B26 VSS (power), C3 VSS (power), C24 VSS (power), D4 VSS (power), D6 VDD (power), D9 VSS (power), D11 VDD (power), D14 VSS (power), D16 VDD (power), D19 VSS (power), D21 VDD (power), D23 VSS (power), F4 VDD (power), F23 VDD (power), H4 VSS (power), J23 VSS (power), L4 VDD (power), L11 VSS/ETC (power), L12 VSS/ETC (power), L13 VSS/ETC (power), L14 VSS/ETC (power), L15 VSS/ETC (power), L16 VSS/ETC (power), L23 VDD (power), M11 VSS/ETC (power), M12 VSS/ETC (power), M13 VSS/ETC (power), M14 VSS/ETC (power), M15 VSS/ETC (power), M16 VSS/ETC (power), N4 VSS (power), N11 VSS/ETC (power), N12 VSS/ETC (power), N13 VSS/ETC (power), N14 VSS/ETC (power), N15 VSS/ETC (power), N16 VSS/ETC (power), P11 VSS/ETC (power), P12 VSS/ETC (power), P13 VSS/ETC (power), P14 VSS/ETC (power), P15 VSS/ETC (power), P16 VSS/ETC (power), P23 VSS (power), R11 VSS/ETC (power), R12 VSS/ETC (power), R13 VSS/ETC (power), R14 VSS/ETC (power), R15 VSS/ETC (power), R16 VSS/ETC (power), T4 VDD (power), T11 VSS/ETC (power), T12 VSS/ETC (power), T13 VSS/ETC (power), T14 VSS/ETC (power), T15 VSS/ETC (power), T16 VSS/ETC (power), T23 VDD (power), V4 VSS (power), W23 VSS (power)

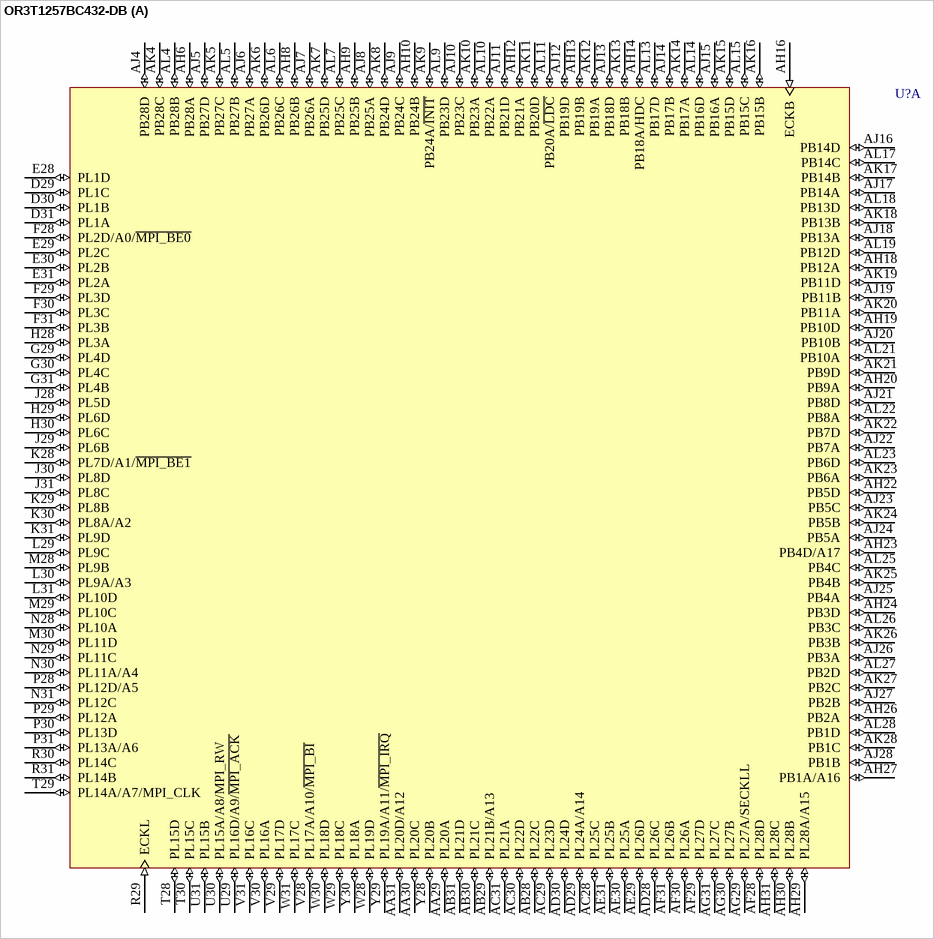
[diagram p131: symbol OR3T1257BC432-DB]

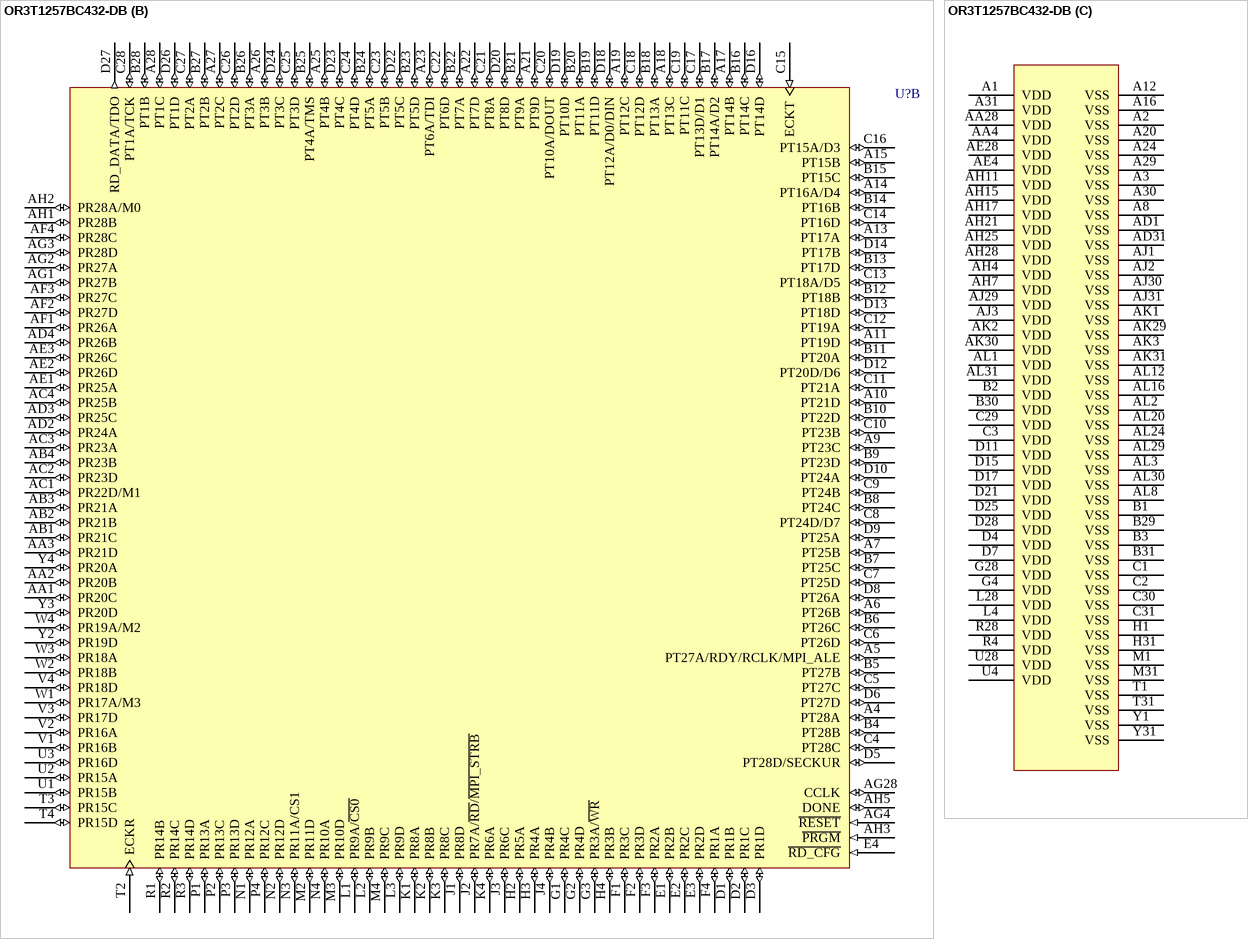
[diagram p132: symbol OR3T1257BC432-DB]

## OR3T1257BC432-DB
designator U?
ORCA Series 3T FPGA: 3.3 V, Commercial Grade, 452 I/Os.; Published: 21-May-2003; LatestRevisionDate: 13-Apr-2006; LatestRevisionNote: IPC-7351 Footprint Added.; DatasheetVersion: Dec-2002; PackageVersion: pkg_32, Aug-2005; PackageReference: SBGA432; Publisher: Altium Limited; PackageDescription: 432-Ball Super Ball Grid Array (SBGA432); ComponentLink1Description: Manufacturer Link; ComponentLink1URL: http://www.latticesemi.com/products/fpga/orca/orca3/index.cfm; ComponentLink2Description: Datasheet; ComponentLink2URL: http://www.latticesemi.com/account/_download.cfm?AMID=3974; ComponentLink3Description: Lattice Login; ComponentLink3URL: http://www.latticesemi.com/account/login.cfm
footprint SBGA432 (BGA, 432-Leads, Body 40x40mm, Pitch 1.27mm)
3D model OR3T125-SBGA432 (432-Ball Super Ball Grid Array (SBGA432))
part A pins: AA29 PL20A (io), AA30 PL20C (io), AA31 PL20D/A12 (io), AB28 PL22C (io), AB29 PL21B/A13 (io), AB30 PL21C (io), AB31 PL21D (io), AC28 PL25C (io), AC29 PL23D (io), AC30 PL22D (io), AC31 PL21A (io), AD28 PL26C (io), AD29 PL24A/A14 (io), AD30 PL24D (io), AE29 PL26D (io), AE30 PL25A (io), AE31 PL25B (io), AF28 PL28D (io), AF29 PL27D (io), AF30 PL26A (io), AF31 PL26B (io), AG29 PL27A/SECKLL (io), AG30 PL27B (io), AG31 PL27C (io), AH6 PB28A (io), AH8 PB26B (io), AH9 PB25B (io), AH10 PB24B (io), AH12 PB21A (io), AH13 PB19B (io), AH14 PB18A/HDC (io), AH16 ECKB (in), AH18 PB12A (io), AH19 PB10D (io), AH20 PB9A (io), AH22 PB5D (io), AH23 PB4D/A17 (io), AH24 PB3D (io), AH26 PB2A (io), AH27 PB1A/A16 (io), AH29 PL28A/A15 (io), AH30 PL28B (io), AH31 PL28C (io), AJ4 PB28D (io), AJ5 PB27D (io), AJ6 PB27A (io), AJ7 PB26A (io), AJ8 PB25A (io), AJ9 PB24C (io), AJ10 PB23C (io), AJ11 PB21D (io), AJ12 PB19D (io), AJ13 PB18D (io), AJ14 PB17B (io), AJ15 PB16A (io), AJ16 PB14D (io), AJ17 PB14A (io), AJ18 PB13A (io), AJ19 PB11B (io), AJ20 PB10B (io), AJ21 PB8D (io), AJ22 PB7A (io), AJ23 PB5C (io), AJ24 PB5A (io), AJ25 PB4A (io), AJ26 PB3A (io), AJ27 PB2B (io), AJ28 PB1B (io), AK4 PB28C (io), AK5 PB27C (io), AK6 PB26D (io), AK7 PB25D (io), AK8 PB24D (io), AK9 PB24A/~{INIT} (io), AK10 PB23A (io), AK11 PB20D (io), AK12 PB19A (io), AK13 PB18B (io), AK14 PB17A (io), AK15 PB15D (io), AK16 PB15B (io), AK17 PB14B (io), AK18 PB13B (io), AK19 PB11D (io), AK20 PB11A (io), AK21 PB9D (io), AK22 PB7D (io), AK23 PB6A (io), AK24 PB5B (io), AK25 PB4B (io), AK26 PB3B (io), AK27 PB2C (io), AK28 PB1C (io), AL4 PB28B (io), AL5 PB27B (io), AL6 PB26C (io), AL7 PB25C (io), AL9 PB23D (io), AL10 PB22A (io), AL11 PB20A/~{LDC} (io), AL13 PB17D (io), AL14 PB16D (io), AL15 PB15C (io), AL17 PB14C (io), AL18 PB13D (io), AL19 PB12D (io), AL21 PB10A (io), AL22 PB8A (io), AL23 PB6D (io), AL25 PB4C (io), AL26 PB3C (io), AL27 PB2D (io), AL28 PB1D (io), D29 PL1C (io), D30 PL1B (io), D31 PL1A (io), E28 PL1D (io), E29 PL2C (io), E30 PL2B (io), E31 PL2A (io), F28 PL2D/A0/~{MPI_BE0} (io), F29 PL3D (io), F30 PL3C (io), F31 PL3B (io), G29 PL4D (io), G30 PL4C (io), G31 PL4B (io), H28 PL3A (io), H29 PL6D (io), H30 PL6C (io), J28 PL5D (io), J29 PL6B (io), J30 PL8D (io), J31 PL8C (io), K28 PL7D/A1/~{MPI_BE1} (io), K29 PL8B (io), K30 PL8A/A2 (io), K31 PL9D (io), L29 PL9C (io), L30 PL9A/A3 (io), L31 PL10D (io), M28 PL9B (io), M29 PL10C (io), M30 PL11D (io), N28 PL10A (io), N29 PL11C (io), N30 PL11A/A4 (io), N31 PL12C (io), P28 PL12D/A5 (io), P29 PL12A (io), P30 PL13D (io), P31 PL13A/A6 (io), R29 ECKL (in), R30 PL14C (io), R31 PL14B (io), T28 PL15D (io), T29 PL14A/A7/MPI_CLK (io), T30 PL15C (io), U29 PL16D/A9/~{MPI_ACK} (io), U30 PL15A/A8/MPI_RW (io), U31 PL15B (io), V28 PL17A/A10/~{MPI_BI} (io), V29 PL17D (io), V30 PL16A (io), V31 PL16C (io), W28 PL19D (io), W29 PL18C (io), W30 PL18D (io), W31 PL17C (io), Y28 PL20B (io), Y29 PL19A/A11/~{MPI_IRQ} (io), Y30 PL18A (io)
part B pins: A4 PT28A (io), A5 PT27A/RDY/RCLK/MPI_ALE (io), A6 PT26B (io), A7 PT25B (io), A9 PT23C (io), A10 PT21D (io), A11 PT19D (io), A13 PT17A (io), A14 PT16A/D4 (io), A15 PT15B (io), A17 PT14B (io), A18 PT13C (io), A19 PT12C (io), A21 PT9D (io), A22 PT7D (io), A23 PT6A/TDI (io), A25 PT4B (io), A26 PT3B (io), A27 PT2C (io), A28 PT1C (io), AA1 PR20C (io), AA2 PR20B (io), AA3 PR21D (io), AB1 PR21C (io), AB2 PR21B (io), AB3 PR21A (io), AB4 PR23B (io), AC1 PR22D/M1 (io), AC2 PR23D (io), AC3 PR23A (io), AC4 PR25B (io), AD2 PR24A (io), AD3 PR25C (io), AD4 PR26B (io), AE1 PR25A (io), AE2 PR26D (io), AE3 PR26C (io), AF1 PR26A (io), AF2 PR27D (io), AF3 PR27C (io), AF4 PR28C (io), AG1 PR27B (io), AG2 PR27A (io), AG3 PR28D (io), AG4 ~{RESET} (in), AG28 CCLK (io), AH1 PR28B (io), AH2 PR28A/M0 (io), AH3 ~{PRGM} (in), AH5 DONE (io), B4 PT28B (io), B5 PT27B (io), B6 PT26C (io), B7 PT25C (io), B8 PT24C (io), B9 PT23D (io), B10 PT22D (io), B11 PT20A (io), B12 PT18B (io), B13 PT17D (io), B14 PT16B (io), B15 PT15C (io), B16 PT14C (io), B17 PT14A/D2 (io), B18 PT13A (io), B19 PT11D (io), B20 PT11A (io), B21 PT9A (io), B22 PT7A (io), B23 PT5D (io), B24 PT5A (io), B25 PT4A/TMS (io), B26 PT3A (io), B27 PT2B (io), B28 PT1B (io), C4 PT28C (io), C5 PT27C (io), C6 PT26D (io), C7 PT25D (io), C8 PT24D/D7 (io), C9 PT24B (io), C10 PT23B (io), C11 PT21A (io), C12 PT19A (io), C13 PT18A/D5 (io), C14 PT16D (io), C15 ECKT (in), C16 PT15A/D3 (io), C17 PT13D/D1 (io), C18 PT12D (io), C19 PT11C (io), C20 PT10A/DOUT (io), C21 PT8A (io), C22 PT6D (io), C23 PT5B (io), C24 PT4D (io), C25 PT3D (io), C26 PT2D (io), C27 PT2A (io), C28 PT1A/TCK (io), D1 PR1B (io), D2 PR1C (io), D3 PR1D (io), D5 PT28D/SECKUR (io), D6 PT27D (io), D8 PT26A (io), D9 PT25A (io), D10 PT24A (io), D12 PT20D/D6 (io), D13 PT18D (io), D14 PT17B (io), D16 PT14D (io), D18 PT12A/D0/DIN (io), D19 PT10D (io), D20 PT8D (io), D22 PT5C (io), D23 PT4C (io), D24 PT3C (io), D26 PT1D (io), D27 RD_DATA/TDO (out), E1 PR2B (io), E2 PR2C (io), E3 PR2D (io), E4 ~{RD_CFG} (in), F1 PR3C (io), F2 PR3D (io), F3 PR2A (io), F4 PR1A (io), G1 PR4C (io), G2 PR4D (io), G3 PR3A/~{WR} (io), H2 PR5A (io), H3 PR4A (io), H4 PR3B (io), J1 PR8D (io), J2 PR7A/~{RD}/~{MPI_STRB} (io), J3 PR6C (io), J4 PR4B (io), K1 PR8A (io), K2 PR8B (io), K3 PR8C (io), K4 PR6A (io), L1 PR9A/~{CS0} (io), L2 PR9B (io), L3 PR9D (io), M2 PR11D (io), M3 PR10D (io), M4 PR9C (io), N1 PR12A (io), N2 PR12D (io), N3 PR11A/CS1 (io), N4 PR10A (io), P1 PR13A (io), P2 PR13C (io), P3 PR13D (io), P4 PR12C (io), R1 PR14B (io), R2 PR14C (io), R3 PR14D (io), T2 ECKR (in), T3 PR15C (io), T4 PR15D (io), U1 PR15B (io), U2 PR15A (io), U3 PR16D (io), V1 PR16B (io), V2 PR16A (io), V3 PR17D (io), V4 PR18D (io), W1 PR17A/M3 (io), W2 PR18B (io), W3 PR18A (io), W4 PR19A/M2 (io), Y2 PR19D (io), Y3 PR20D (io), Y4 PR20A (io)
part C pins: A1 VDD (power), A2 VSS (power), A3 VSS (power), A8 VSS (power), A12 VSS (power), A16 VSS (power), A20 VSS (power), A24 VSS (power), A29 VSS (power), A30 VSS (power), A31 VDD (power), AA4 VDD (power), AA28 VDD (power), AD1 VSS (power), AD31 VSS (power), AE4 VDD (power), AE28 VDD (power), AH4 VDD (power), AH7 VDD (power), AH11 VDD (power), AH15 VDD (power), AH17 VDD (power), AH21 VDD (power), AH25 VDD (power), AH28 VDD (power), AJ1 VSS (power), AJ2 VSS (power), AJ3 VDD (power), AJ29 VDD (power), AJ30 VSS (power), AJ31 VSS (power), AK1 VSS (power), AK2 VDD (power), AK3 VSS (power), AK29 VSS (power), AK30 VDD (power), AK31 VSS (power), AL1 VDD (power), AL2 VSS (power), AL3 VSS (power), AL8 VSS (power), AL12 VSS (power), AL16 VSS (power), AL20 VSS (power), AL24 VSS (power), AL29 VSS (power), AL30 VSS (power), AL31 VDD (power), B1 VSS (power), B2 VDD (power), B3 VSS (power), B29 VSS (power), B30 VDD (power), B31 VSS (power), C1 VSS (power), C2 VSS (power), C3 VDD (power), C29 VDD (power), C30 VSS (power), C31 VSS (power), D4 VDD (power), D7 VDD (power), D11 VDD (power), D15 VDD (power), D17 VDD (power), D21 VDD (power), D25 VDD (power), D28 VDD (power), G4 VDD (power), G28 VDD (power), H1 VSS (power), H31 VSS (power), L4 VDD (power), L28 VDD (power), M1 VSS (power), M31 VSS (power), R4 VDD (power), R28 VDD (power), T1 VSS (power), T31 VSS (power), U4 VDD (power), U28 VDD (power), Y1 VSS (power), Y31 VSS (power)

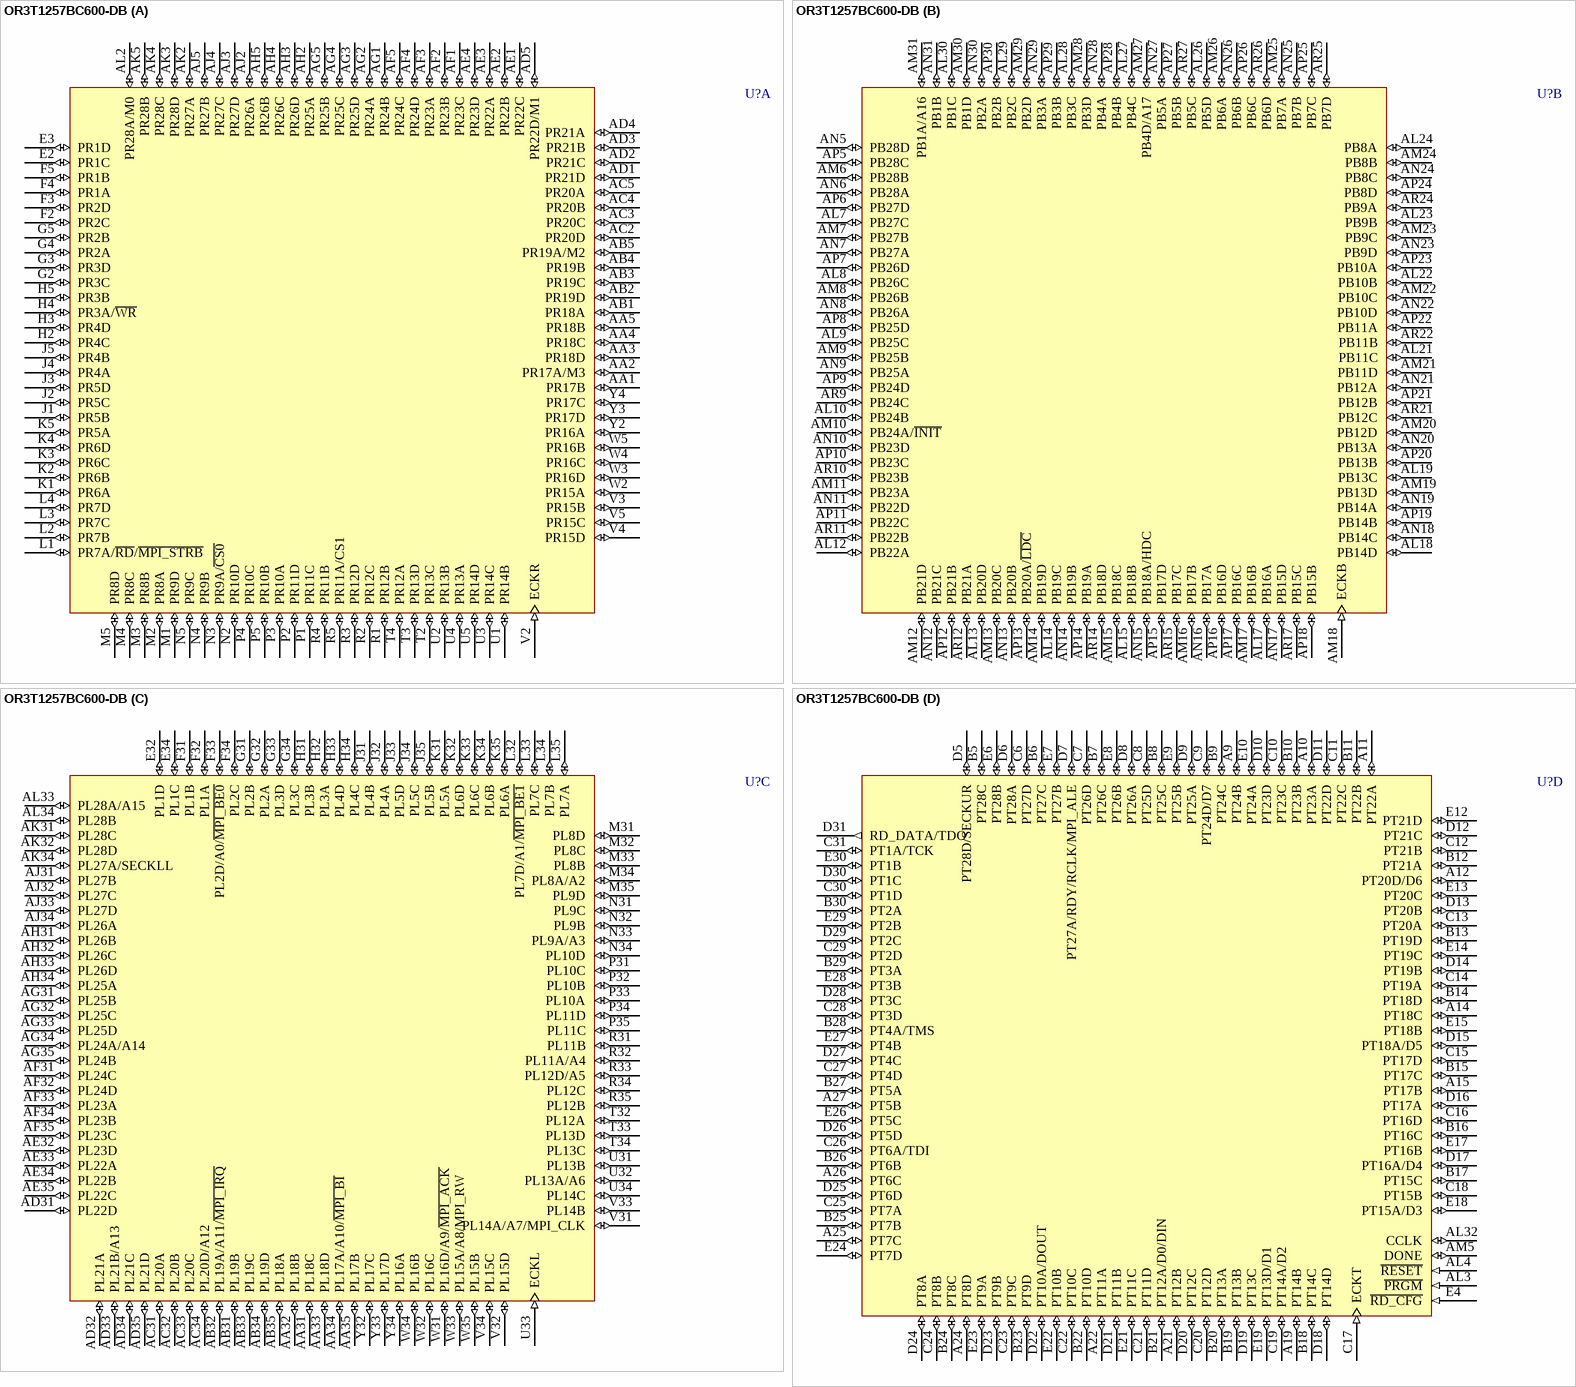
[diagram p133: symbol OR3T1257BC600-DB]

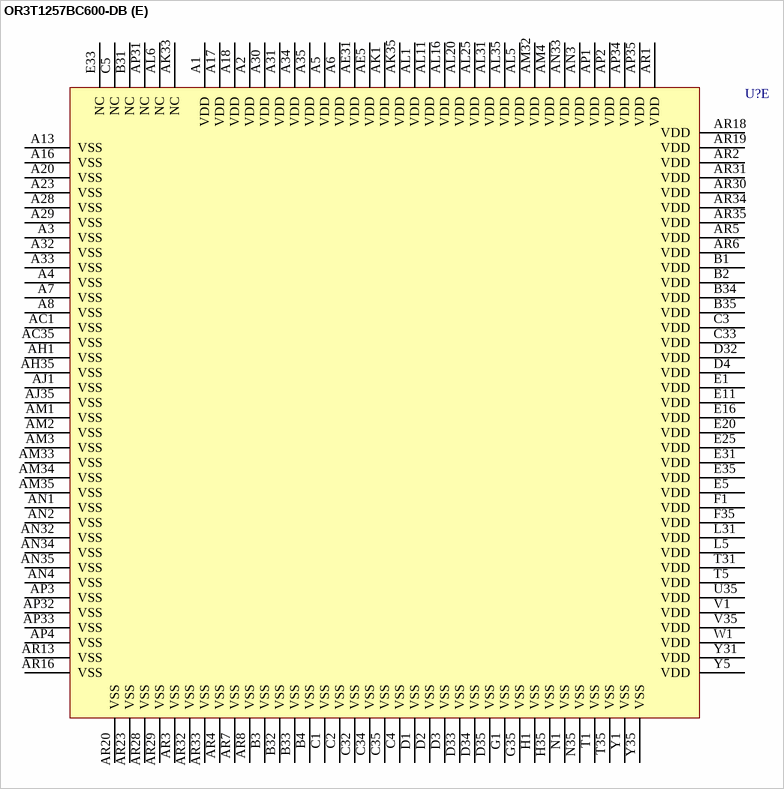
[diagram p134: symbol OR3T1257BC600-DB]

## OR3T1257BC600-DB
designator U?
ORCA Series 3T FPGA: 3.3 V, Commercial Grade, 452 I/Os.; Published: 21-May-2003; LatestRevisionDate: 13-Apr-2006; LatestRevisionNote: IPC-7351 Footprint Added.; DatasheetVersion: Dec-2002; PackageVersion: pkg_32, Aug-2005; PackageReference: SBGA600; Publisher: Altium Limited; PackageDescription: 600-Ball Super Ball Grid Array (SBGA600); ComponentLink1Description: Manufacturer Link; ComponentLink1URL: http://www.latticesemi.com/products/fpga/orca/orca3/index.cfm; ComponentLink2Description: Datasheet; ComponentLink2URL: http://www.latticesemi.com/account/_download.cfm?AMID=3974; ComponentLink3Description: Lattice Login; ComponentLink3URL: http://www.latticesemi.com/account/login.cfm
footprint SBGA600 (BGA, 600-Leads, Body 45x45mm, Pitch 1.27mm)
3D model OR3T125-SBGA600 (600-Ball Super Ball Grid Array (SBGA600))
part A pins: AA1 PR17B (io), AA2 PR17A/M3 (io), AA3 PR18D (io), AA4 PR18C (io), AA5 PR18B (io), AB1 PR18A (io), AB2 PR19D (io), AB3 PR19C (io), AB4 PR19B (io), AB5 PR19A/M2 (io), AC2 PR20D (io), AC3 PR20C (io), AC4 PR20B (io), AC5 PR20A (io), AD1 PR21D (io), AD2 PR21C (io), AD3 PR21B (io), AD4 PR21A (io), AD5 PR22D/M1 (io), AE1 PR22C (io), AE2 PR22B (io), AE3 PR22A (io), AE4 PR23D (io), AF1 PR23C (io), AF2 PR23B (io), AF3 PR23A (io), AF4 PR24D (io), AF5 PR24C (io), AG1 PR24B (io), AG2 PR24A (io), AG3 PR25D (io), AG4 PR25C (io), AG5 PR25B (io), AH2 PR25A (io), AH3 PR26D (io), AH4 PR26C (io), AH5 PR26B (io), AJ2 PR26A (io), AJ3 PR27D (io), AJ4 PR27C (io), AJ5 PR27B (io), AK2 PR27A (io), AK3 PR28D (io), AK4 PR28C (io), AK5 PR28B (io), AL2 PR28A/M0 (io), E2 PR1C (io), E3 PR1D (io), F2 PR2C (io), F3 PR2D (io), F4 PR1A (io), F5 PR1B (io), G2 PR3C (io), G3 PR3D (io), G4 PR2A (io), G5 PR2B (io), H2 PR4C (io), H3 PR4D (io), H4 PR3A/~{WR} (io), H5 PR3B (io), J1 PR5B (io), J2 PR5C (io), J3 PR5D (io), J4 PR4A (io), J5 PR4B (io), K1 PR6A (io), K2 PR6B (io), K3 PR6C (io), K4 PR6D (io), K5 PR5A (io), L1 PR7A/~{RD}/~{MPI_STRB} (io), L2 PR7B (io), L3 PR7C (io), L4 PR7D (io), M1 PR9D (io), M2 PR8A (io), M3 PR8B (io), M4 PR8C (io), M5 PR8D (io), N2 PR10D (io), N3 PR9A/~{CS0} (io), N4 PR9B (io), N5 PR9C (io), P1 PR11C (io), P2 PR11D (io), P3 PR10A (io), P4 PR10C (io), P5 PR10B (io), R1 PR12B (io), R2 PR12C (io), R3 PR12D (io), R4 PR11B (io), R5 PR11A/CS1 (io), T2 PR13C (io), T3 PR13D (io), T4 PR12A (io), U1 PR14B (io), U2 PR13B (io), U3 PR14C (io), U4 PR13A (io), U5 PR14D (io), V2 ECKR (in), V3 PR15B (io), V4 PR15D (io), V5 PR15C (io), W2 PR15A (io), W3 PR16D (io), W4 PR16C (io), W5 PR16B (io), Y2 PR16A (io), Y3 PR17D (io), Y4 PR17C (io)
part B pins: AL7 PB27C (io), AL8 PB26C (io), AL9 PB25C (io), AL10 PB24B (io), AL12 PB22A (io), AL13 PB20D (io), AL14 PB19C (io), AL15 PB18B (io), AL17 PB16A (io), AL18 PB14D (io), AL19 PB13C (io), AL21 PB11C (io), AL22 PB10B (io), AL23 PB9B (io), AL24 PB8A (io), AL26 PB5D (io), AL27 PB4C (io), AL28 PB3C (io), AL29 PB2C (io), AL30 PB1C (io), AM6 PB28B (io), AM7 PB27B (io), AM8 PB26B (io), AM9 PB25B (io), AM10 PB24A/~{INIT} (io), AM11 PB23A (io), AM12 PB21D (io), AM13 PB20C (io), AM14 PB19D (io), AM15 PB18C (io), AM16 PB17B (io), AM17 PB16B (io), AM18 ECKB (in), AM19 PB13D (io), AM20 PB12D (io), AM21 PB11D (io), AM22 PB10C (io), AM23 PB9C (io), AM24 PB8B (io), AM25 PB7A (io), AM26 PB6A (io), AM27 PB4D/A17 (io), AM28 PB3D (io), AM29 PB2D (io), AM30 PB1D (io), AM31 PB1A/A16 (io), AN5 PB28D (io), AN6 PB28A (io), AN7 PB27A (io), AN8 PB26A (io), AN9 PB25A (io), AN10 PB23D (io), AN11 PB22D (io), AN12 PB21C (io), AN13 PB20B (io), AN14 PB19B (io), AN15 PB18A/HDC (io), AN16 PB17A (io), AN17 PB15D (io), AN18 PB14C (io), AN19 PB14A (io), AN20 PB13A (io), AN21 PB12A (io), AN22 PB10D (io), AN23 PB9D (io), AN24 PB8C (io), AN25 PB7B (io), AN26 PB6B (io), AN27 PB5A (io), AN28 PB4A (io), AN29 PB3A (io), AN30 PB2A (io), AN31 PB1B (io), AP5 PB28C (io), AP6 PB27D (io), AP7 PB26D (io), AP8 PB25D (io), AP9 PB24D (io), AP10 PB23C (io), AP11 PB22C (io), AP12 PB21B (io), AP13 PB20A/~{LDC} (io), AP14 PB19A (io), AP15 PB17D (io), AP16 PB16D (io), AP17 PB16C (io), AP18 PB15B (io), AP19 PB14B (io), AP20 PB13B (io), AP21 PB12B (io), AP22 PB11A (io), AP23 PB10A (io), AP24 PB8D (io), AP25 PB7C (io), AP26 PB6C (io), AP27 PB5B (io), AP28 PB4B (io), AP29 PB3B (io), AP30 PB2B (io), AR9 PB24C (io), AR10 PB23B (io), AR11 PB22B (io), AR12 PB21A (io), AR14 PB18D (io), AR15 PB17C (io), AR17 PB15C (io), AR21 PB12C (io), AR22 PB11B (io), AR24 PB9A (io), AR25 PB7D (io), AR26 PB6D (io), AR27 PB5C (io)
part C pins: AA31 PL18C (io), AA32 PL18B (io), AA33 PL18D (io), AA34 PL17A/A10/~{MPI_BI} (io), AA35 PL17B (io), AB31 PL19B (io), AB32 PL19A/A11/~{MPI_IRQ} (io), AB33 PL19C (io), AB34 PL19D (io), AB35 PL18A (io), AC31 PL20A (io), AC32 PL20B (io), AC33 PL20C (io), AC34 PL20D/A12 (io), AD31 PL22D (io), AD32 PL21A (io), AD33 PL21B/A13 (io), AD34 PL21C (io), AD35 PL21D (io), AE32 PL23D (io), AE33 PL22A (io), AE34 PL22B (io), AE35 PL22C (io), AF31 PL24C (io), AF32 PL24D (io), AF33 PL23A (io), AF34 PL23B (io), AF35 PL23C (io), AG31 PL25B (io), AG32 PL25C (io), AG33 PL25D (io), AG34 PL24A/A14 (io), AG35 PL24B (io), AH31 PL26B (io), AH32 PL26C (io), AH33 PL26D (io), AH34 PL25A (io), AJ31 PL27B (io), AJ32 PL27C (io), AJ33 PL27D (io), AJ34 PL26A (io), AK31 PL28C (io), AK32 PL28D (io), AK34 PL27A/SECKLL (io), AL33 PL28A/A15 (io), AL34 PL28B (io), E32 PL1D (io), E34 PL1C (io), F31 PL1B (io), F32 PL1A (io), F33 PL2D/A0/~{MPI_BE0} (io), F34 PL2C (io), G31 PL2B (io), G32 PL2A (io), G33 PL3D (io), G34 PL3C (io), H31 PL3B (io), H32 PL3A (io), H33 PL4D (io), H34 PL4C (io), J31 PL4B (io), J32 PL4A (io), J33 PL5D (io), J34 PL5C (io), J35 PL5B (io), K31 PL5A (io), K32 PL6D (io), K33 PL6C (io), K34 PL6B (io), K35 PL6A (io), L32 PL7D/A1/~{MPI_BE1} (io), L33 PL7C (io), L34 PL7B (io), L35 PL7A (io), M31 PL8D (io), M32 PL8C (io), M33 PL8B (io), M34 PL8A/A2 (io), M35 PL9D (io), N31 PL9C (io), N32 PL9B (io), N33 PL9A/A3 (io), N34 PL10D (io), P31 PL10C (io), P32 PL10B (io), P33 PL10A (io), P34 PL11D (io), P35 PL11C (io), R31 PL11B (io), R32 PL11A/A4 (io), R33 PL12D/A5 (io), R34 PL12C (io), R35 PL12B (io), T32 PL12A (io), T33 PL13D (io), T34 PL13C (io), U31 PL13B (io), U32 PL13A/A6 (io), U33 ECKL (in), U34 PL14C (io), V31 PL14A/A7/MPI_CLK (io), V32 PL15D (io), V33 PL14B (io), V34 PL15C (io), W31 PL16D/A9/~{MPI_ACK} (io), W32 PL16C (io), W33 PL15A/A8/MPI_RW (io), W34 PL16B (io), W35 PL15B (io), Y32 PL17C (io), Y33 PL17D (io), Y34 PL16A (io)
part D pins: A9 PT24B (io), A10 PT23A (io), A11 PT22A (io), A12 PT20D/D6 (io), A14 PT18C (io), A15 PT17B (io), A19 PT14B (io), A21 PT12B (io), A22 PT11A (io), A24 PT8D (io), A25 PT7C (io), A26 PT6C (io), A27 PT5B (io), AL3 ~{PRGM} (in), AL4 ~{RESET} (in), AL32 CCLK (io), AM5 DONE (io), B5 PT28C (io), B6 PT27C (io), B7 PT26C (io), B8 PT25C (io), B9 PT24C (io), B10 PT23B (io), B11 PT22B (io), B12 PT21A (io), B13 PT19D (io), B14 PT18D (io), B15 PT17C (io), B16 PT16C (io), B17 PT15C (io), B18 PT14C (io), B19 PT13B (io), B20 PT13A (io), B21 PT12A/D0/DIN (io), B22 PT10D (io), B23 PT9D (io), B24 PT8C (io), B25 PT7B (io), B26 PT6B (io), B27 PT5A (io), B28 PT4A/TMS (io), B29 PT3A (io), B30 PT2A (io), C6 PT27D (io), C7 PT26D (io), C8 PT25D (io), C9 PT24D/D7 (io), C10 PT23C (io), C11 PT22C (io), C12 PT21B (io), C13 PT20A (io), C14 PT19A (io), C15 PT17D (io), C16 PT16D (io), C17 ECKT (in), C18 PT15B (io), C19 PT14A/D2 (io), C20 PT12D (io), C21 PT11D (io), C22 PT10C (io), C23 PT9C (io), C24 PT8B (io), C25 PT7A (io), C26 PT6A/TDI (io), C27 PT4D (io), C28 PT3D (io), C29 PT2D (io), C30 PT1D (io), C31 PT1A/TCK (io), D5 PT28D/SECKUR (io), D6 PT28A (io), D7 PT27A/RDY/RCLK/MPI_ALE (io), D8 PT26A (io), D9 PT25A (io), D10 PT23D (io), D11 PT22D (io), D12 PT21C (io), D13 PT20B (io), D14 PT19B (io), D15 PT18A/D5 (io), D16 PT17A (io), D17 PT16A/D4 (io), D18 PT14D (io), D19 PT13C (io), D20 PT12C (io), D21 PT11B (io), D22 PT10A/DOUT (io), D23 PT9B (io), D24 PT8A (io), D25 PT6D (io), D26 PT5D (io), D27 PT4C (io), D28 PT3C (io), D29 PT2C (io), D30 PT1C (io), D31 RD_DATA/TDO (out), E4 ~{RD_CFG} (in), E6 PT28B (io), E7 PT27B (io), E8 PT26B (io), E9 PT25B (io), E10 PT24A (io), E12 PT21D (io), E13 PT20C (io), E14 PT19C (io), E15 PT18B (io), E17 PT16B (io), E18 PT15A/D3 (io), E19 PT13D/D1 (io), E21 PT11C (io), E22 PT10B (io), E23 PT9A (io), E24 PT7D (io), E26 PT5C (io), E27 PT4B (io), E28 PT3B (io), E29 PT2B (io), E30 PT1B (io)
part E pins: A1 VDD (power), A2 VDD (power), A3 VSS (power), A4 VSS (power), A5 VDD (power), A6 VDD (power), A7 VSS (power), A8 VSS (power), A13 VSS (power), A16 VSS (power), A17 VDD (power), A18 VDD (power), A20 VSS (power), A23 VSS (power), A28 VSS (power), A29 VSS (power), A30 VDD (power), A31 VDD (power), A32 VSS (power), A33 VSS (power), A34 VDD (power), A35 VDD (power), AC1 VSS (power), AC35 VSS (power), AE5 VDD (power), AE31 VDD (power), AH1 VSS (power), AH35 VSS (power), AJ1 VSS (power), AJ35 VSS (power), AK1 VDD (power), AK33 NC, AK35 VDD (power), AL1 VDD (power), AL5 VDD (power), AL6 NC, AL11 VDD (power), AL16 VDD (power), AL20 VDD (power), AL25 VDD (power), AL31 VDD (power), AL35 VDD (power), AM1 VSS (power), AM2 VSS (power), AM3 VSS (power), AM4 VDD (power), AM32 VDD (power), AM33 VSS (power), AM34 VSS (power), AM35 VSS (power), AN1 VSS (power), AN2 VSS (power), AN3 VDD (power), AN4 VSS (power), AN32 VSS (power), AN33 VDD (power), AN34 VSS (power), AN35 VSS (power), AP1 VDD (power), AP2 VDD (power), AP3 VSS (power), AP4 VSS (power), AP31 NC, AP32 VSS (power), AP33 VSS (power), AP34 VDD (power), AP35 VDD (power), AR1 VDD (power), AR2 VDD (power), AR3 VSS (power), AR4 VSS (power), AR5 VDD (power), AR6 VDD (power), AR7 VSS (power), AR8 VSS (power), AR13 VSS (power), AR16 VSS (power), AR18 VDD (power), AR19 VDD (power), AR20 VSS (power), AR23 VSS (power), AR28 VSS (power), AR29 VSS (power), AR30 VDD (power), AR31 VDD (power), AR32 VSS (power), AR33 VSS (power), AR34 VDD (power), AR35 VDD (power), B1 VDD (power), B2 VDD (power), B3 VSS (power), B4 VSS (power), B31 NC, B32 VSS (power), B33 VSS (power), B34 VDD (power), B35 VDD (power), C1 VSS (power), C2 VSS (power), C3 VDD (power), C4 VSS (power), C5 NC, C32 VSS (power), C33 VDD (power), C34 VSS (power), C35 VSS (power), D1 VSS (power), D2 VSS (power), D3 VSS (power), D4 VDD (power), D32 VDD (power), D33 VSS (power), D34 VSS (power), D35 VSS (power), E1 VDD (power), E5 VDD (power), E11 VDD (power), E16 VDD (power), E20 VDD (power), E25 VDD (power), E31 VDD (power), E33 NC, E35 VDD (power), F1 VDD (power), F35 VDD (power), G1 VSS (power), G35 VSS (power), H1 VSS (power), H35 VSS (power), L5 VDD (power), L31 VDD (power), N1 VSS (power), N35 VSS (power), T1 VSS (power), T5 VDD (power), T31 VDD (power), T35 VSS (power), U35 VDD (power), V1 VDD (power), V35 VDD (power), W1 VDD (power), Y1 VSS (power), Y5 VDD (power), Y31 VDD (power), Y35 VSS (power)

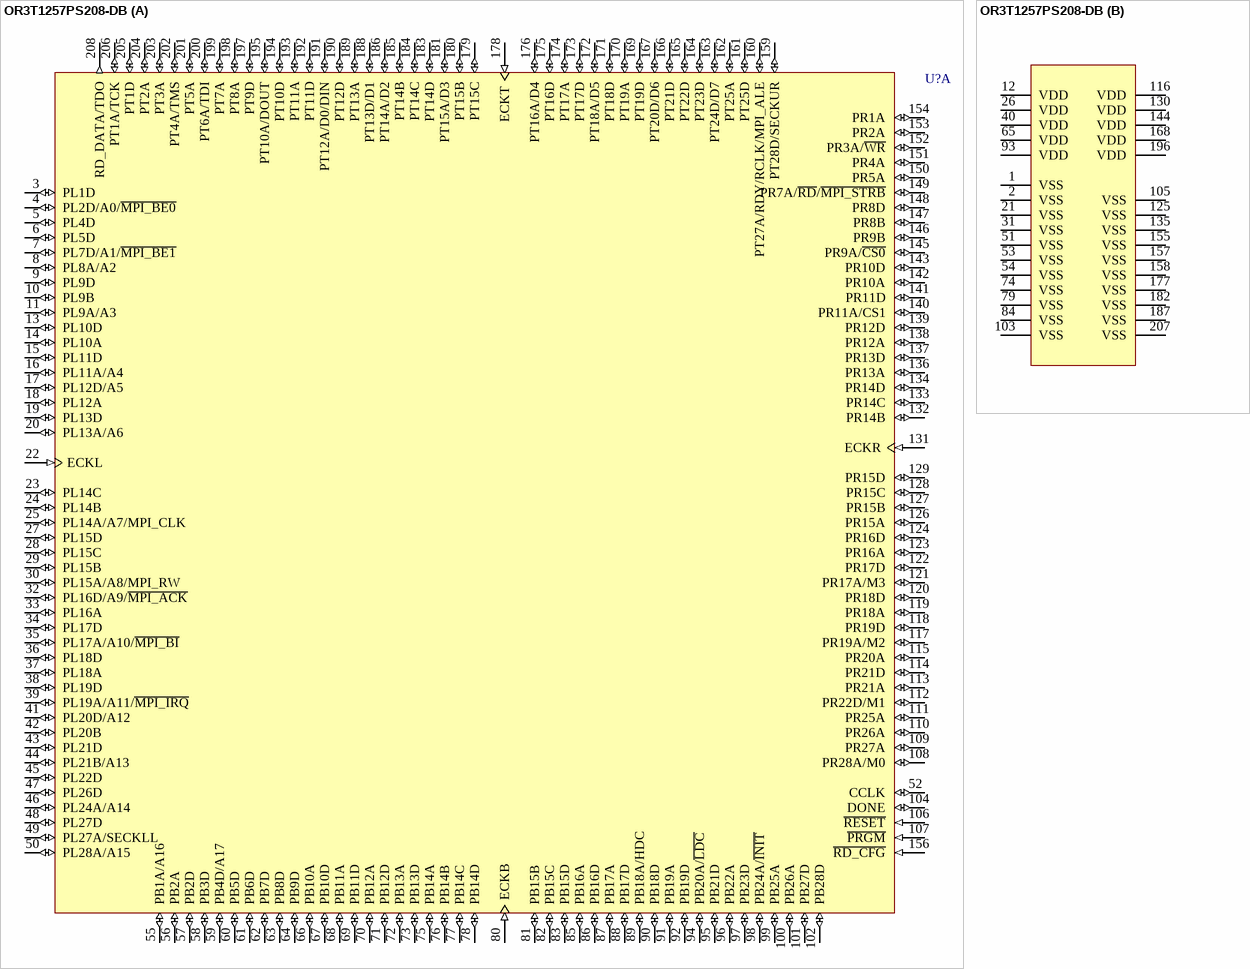
[diagram p135: symbol OR3T1257PS208-DB]